# Altium integrated library ALIENTEK_COMPONENT.IntLib: 379 symbols (part 2 of 3)
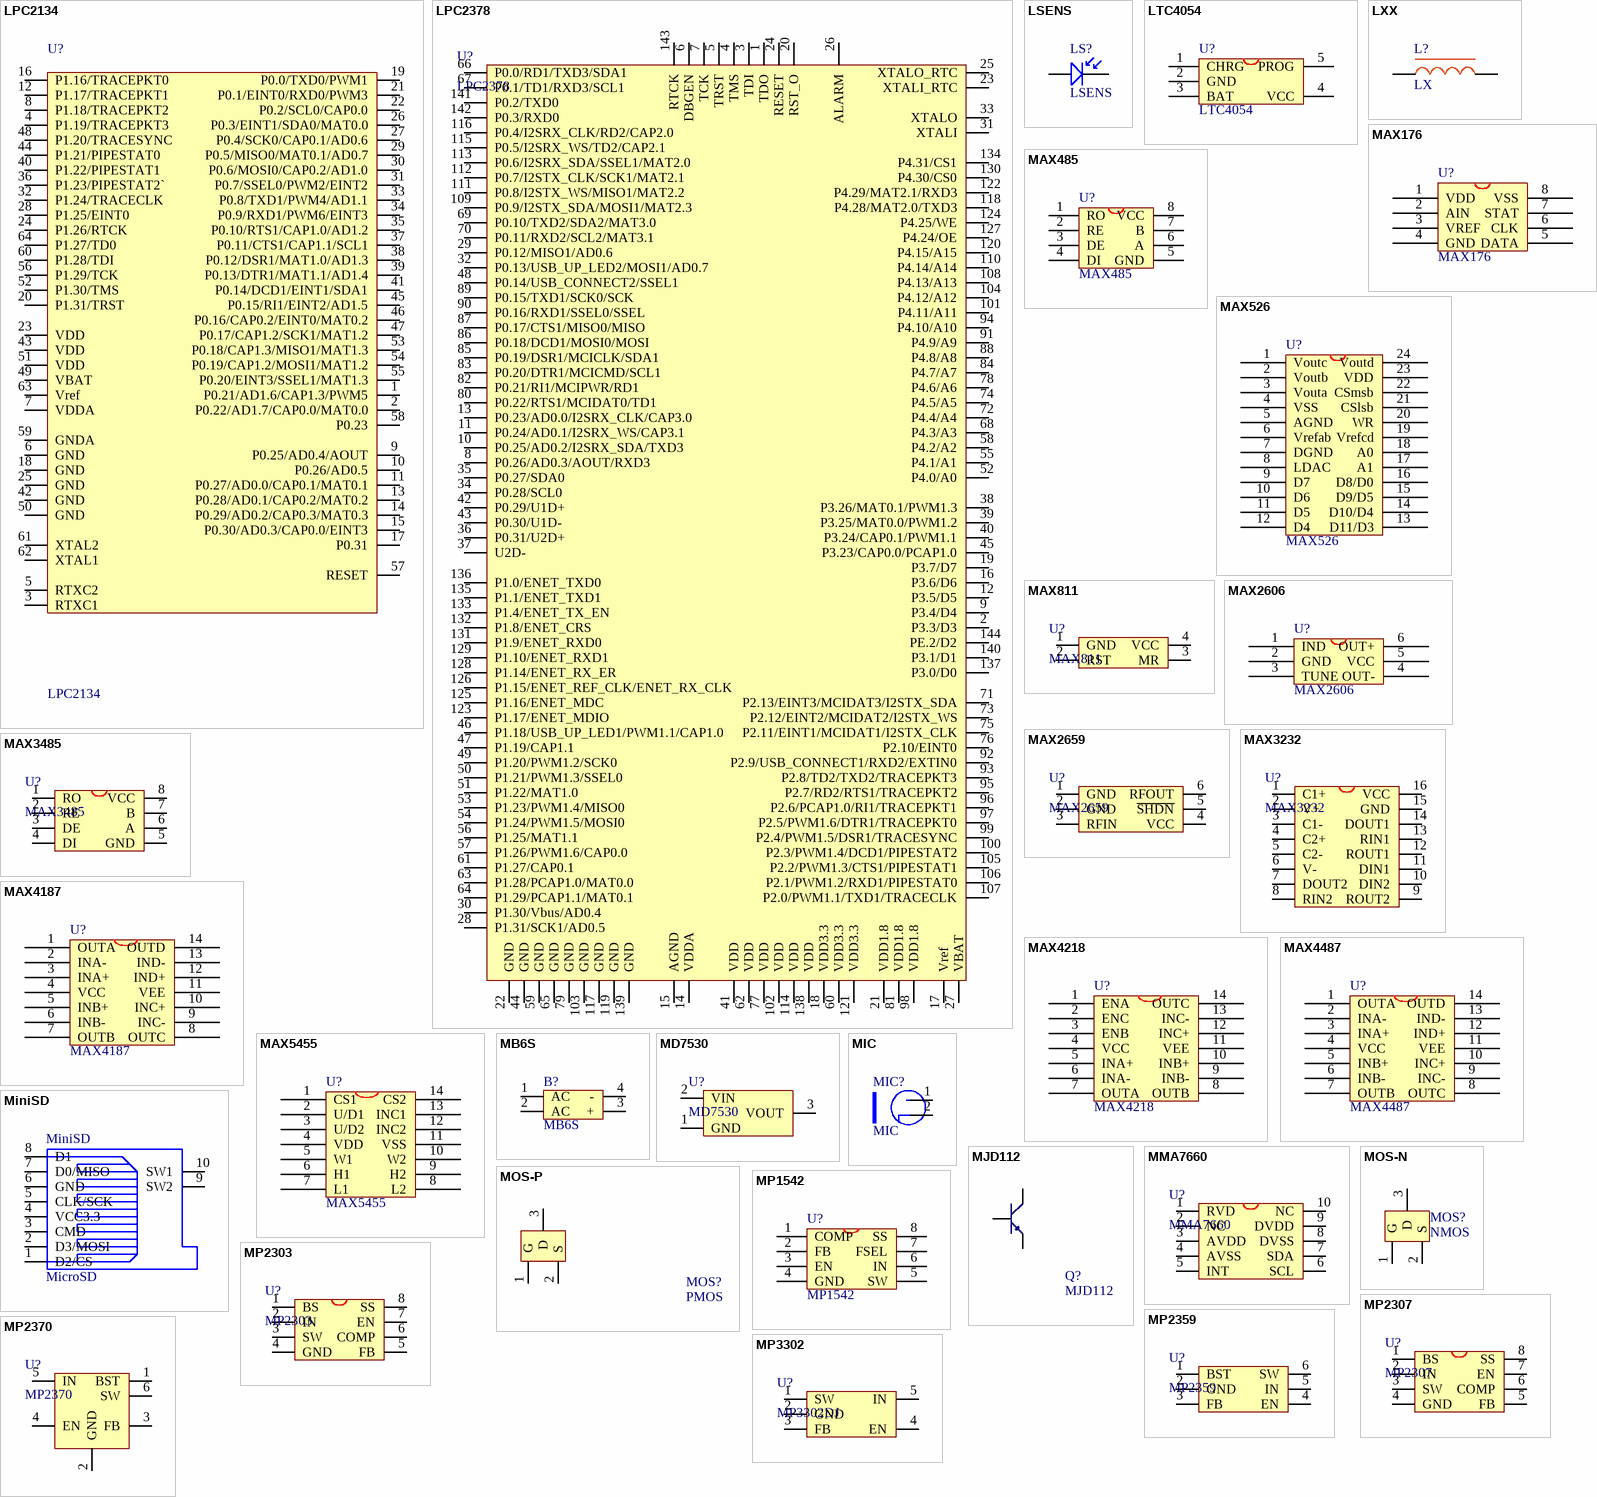
[diagram p21: symbols LPC2134 to MP3302]

## MOS-P
designator MOS?, comment PMOS
IRLML6401/SI2301
footprint SO-G3/C2.5 (SOT-23; 3 Leads; Body 3.0 x 2.6 mm, inc. leads (LxW max))
pins: 1 G, 2 S, 3 D

## MP1542
designator U?
footprint MSOP8 (Shrink Small Outline, MSOP; 8 Leads; Body Width 3 mm; Pitch 0.65 mm)
pins: 1 COMP, 2 FB, 3 EN, 4 GND, 5 SW, 6 IN, 7 FSEL, 8 SS

## MP2303
designator U?
DC DC Step Down IC
footprint SOP-8 (SOP)
pins: 1 BS, 2 IN, 3 SW, 4 GND, 5 FB, 6 COMP, 7 EN, 8 SS

## MP2307
designator U?
DC DC Step Down IC
footprint SOP-8 (SOP)
pins: 1 BS, 2 IN, 3 SW, 4 GND, 5 FB, 6 COMP, 7 EN, 8 SS

## MP2359
designator U?
DC DC Step Down IC
footprint SOT-23-6
pins: 1 BST, 2 GND, 3 FB, 4 EN, 5 IN, 6 SW

## MP2370
designator U?
DC DC Step Down IC
footprint SOT-23-6
pins: 1 BST, 2 GND, 3 FB, 4 EN, 5 IN, 6 SW

## MP3302
designator U?, comment MP3302DJ
LCD背光IC
footprint SOT-23-5
pins: 1 SW, 2 GND, 3 FB, 4 EN, 5 IN

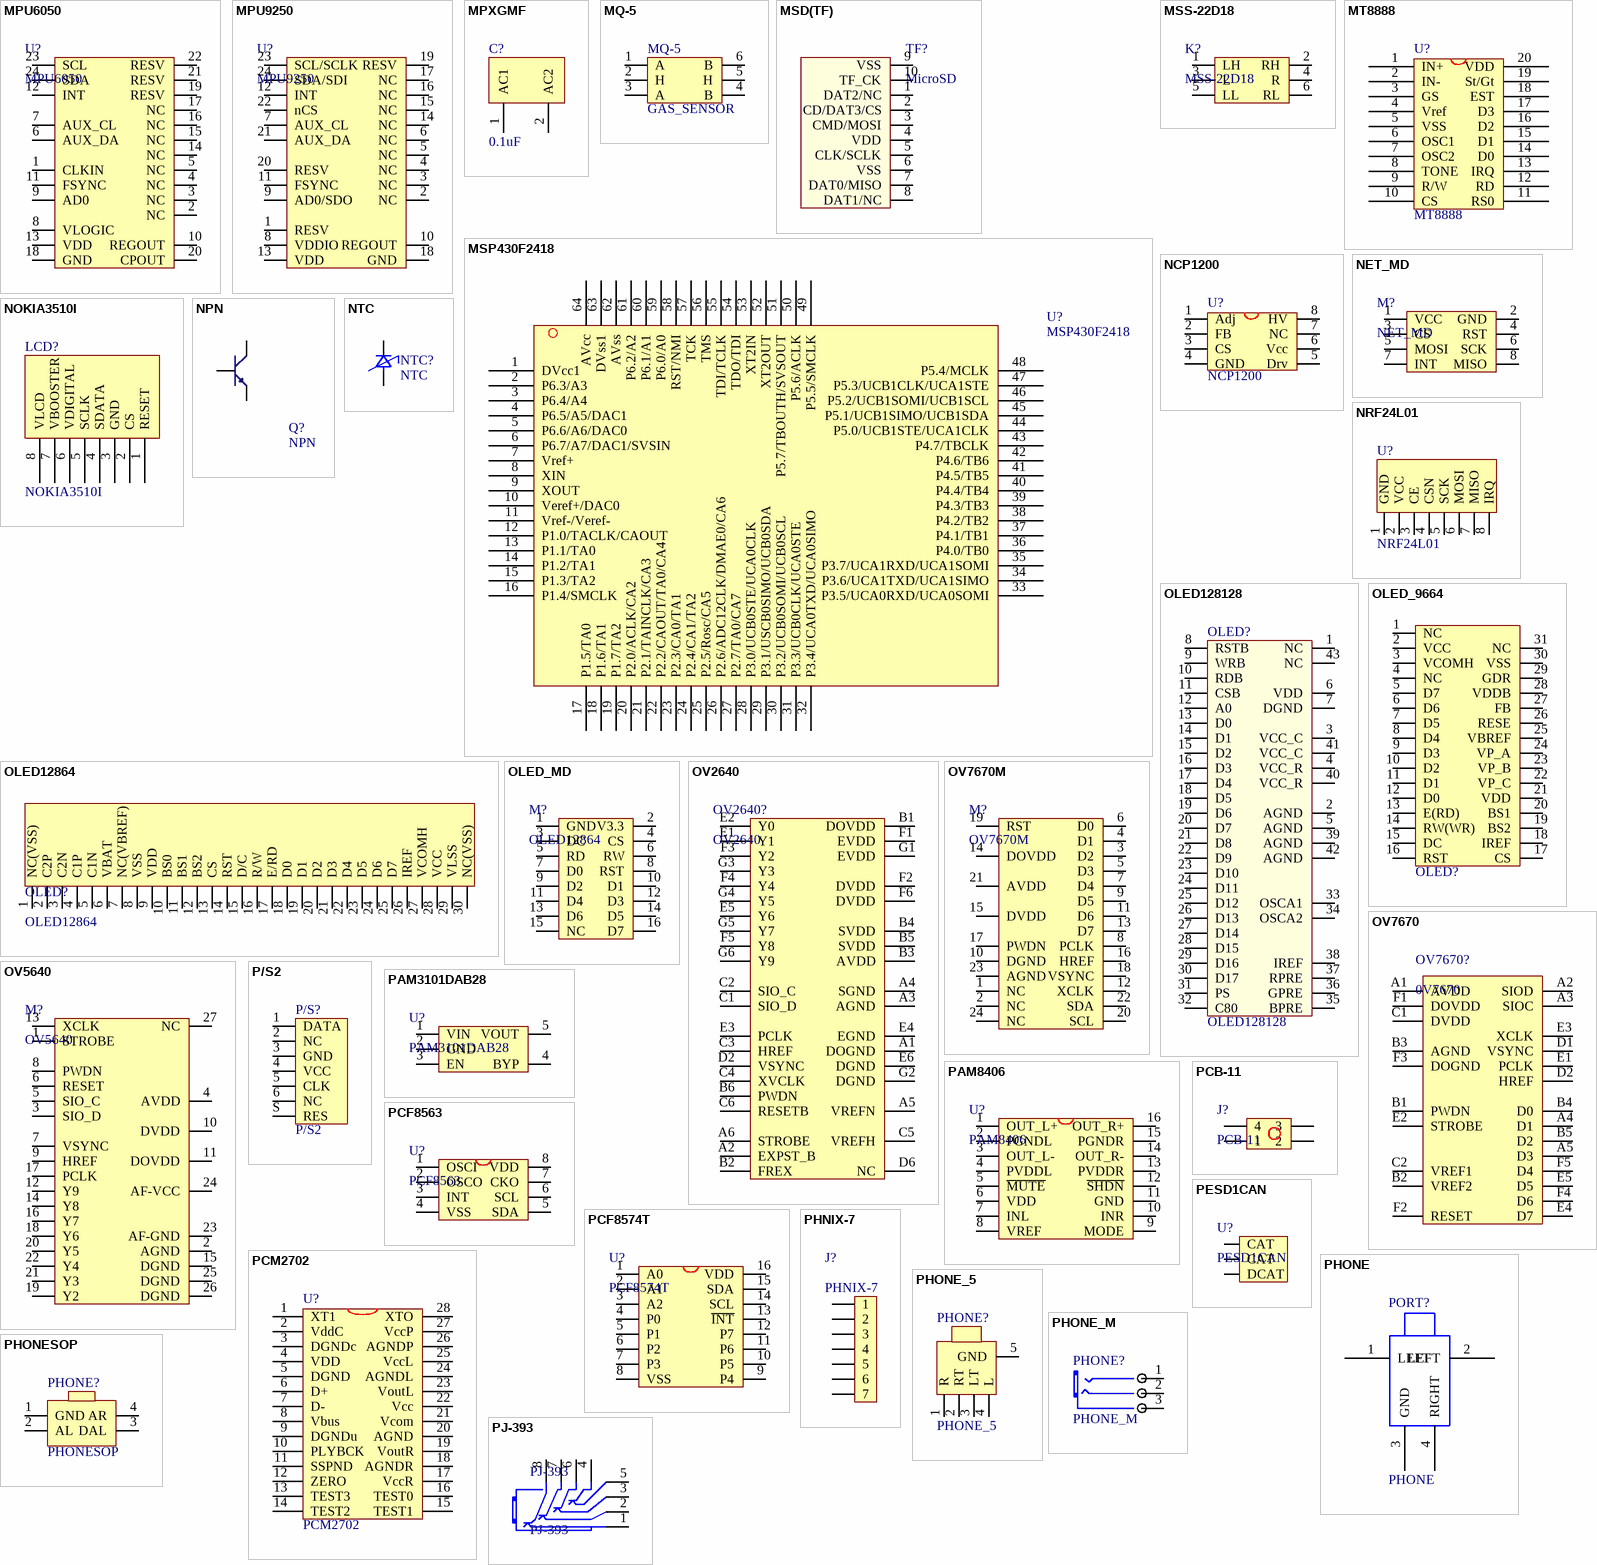
[diagram p7: symbols MPU6050 to PJ-393]

## MPU6050
designator U?
6轴运动处理传感器
footprint QFN24 (QFN, 24-Leads, Body 4.0x4.0mm (max), Pitch 0.50mm, IPC Medium Density)
pins: 1 CLKIN, 2 NC, 3 NC, 4 NC, 5 NC, 6 AUX_DA, 7 AUX_CL, 8 VLOGIC, 9 AD0, 10 REGOUT, 11 FSYNC, 12 INT, 13 VDD, 14 NC, 15 NC, 16 NC, 17 NC, 18 GND, 19 RESV, 20 CPOUT, 21 RESV, 22 RESV, 23 SCL, 24 SDA

## MPU9250
designator U?
9轴运动处理传感器
footprint QFN24-t (QFN, 24-Leads, Body 3.0x3.0mm (max), Pitch 0.40mm,)
pins: 1 RESV, 2 NC, 3 NC, 4 NC, 5 NC, 6 NC, 7 AUX_CL, 8 VDDIO, 9 AD0/SDO, 10 REGOUT, 11 FSYNC, 12 INT, 13 VDD, 14 NC, 15 NC, 16 NC, 17 NC, 18 GND, 19 RESV, 20 RESV, 21 AUX_DA, 22 nCS, 23 SCL/SCLK, 24 SDA/SDI

## MPXGMF
designator C?, comment 0.1uF
footprint MPXGMF
pins: 1 AC1, 2 AC2

## MQ-5
designator MQ-5, comment GAS_SENSOR
footprint MQ-5 (GAS_SENSOR)
pins: 1 A, 2 H, 3 A, 4 B, 5 H, 6 B

## MSD(TF)
designator TF?, comment MicroSD
footprint MSD(TF)
pins: 1 DAT2/NC, 2 CD/DAT3/CS, 3 CMD/MOSI, 4 VDD, 5 CLK/SCLK, 6 VSS, 7 DAT0/MISO, 8 DAT1/NC, 9 VSS, 10 TF_CK

## MSP430F2418
designator U?
footprint TQFP64
pins: 1 DVcc1, 2 P6.3/A3, 3 P6.4/A4, 4 P6.5/A5/DAC1, 5 P6.6/A6/DAC0, 6 P6.7/A7/DAC1/SVSIN, 7 Vref+, 8 XIN, 9 XOUT, 10 Veref+/DAC0, 11 Vref-/Veref-, 12 P1.0/TACLK/CAOUT, 13 P1.1/TA0, 14 P1.2/TA1, 15 P1.3/TA2, 16 P1.4/SMCLK, 17 P1.5/TA0, 18 P1.6/TA1, 19 P1.7/TA2, 20 P2.0/ACLK/CA2, 21 P2.1/TAINCLK/CA3, 22 P2.2/CAOUT/TA0/CA4, 23 P2.3/CA0/TA1, 24 P2.4/CA1/TA2, 25 P2.5/Rosc/CA5, 26 P2.6/ADC12CLK/DMAE0/CA6, 27 P2.7/TA0/CA7, 28 P3.0/UCB0STE/UCA0CLK, 29 P3.1/USCB0SIMO/UCB0SDA, 30 P3.2/UCB0SOMI/UCB0SCL, 31 P3.3/UCB0CLK/UCA0STE, 32 P3.4/UCA0TXD/UCA0SIMO, 33 P3.5/UCA0RXD/UCA0SOMI, 34 P3.6/UCA1TXD/UCA1SIMO, 35 P3.7/UCA1RXD/UCA1SOMI, 36 P4.0/TB0, 37 P4.1/TB1, 38 P4.2/TB2, 39 P4.3/TB3, 40 P4.4/TB4, 41 P4.5/TB5, 42 P4.6/TB6, 43 P4.7/TBCLK, 44 P5.0/UCB1STE/UCA1CLK, 45 P5.1/UCB1SIMO/UCB1SDA, 46 P5.2/UCB1SOMI/UCB1SCL, 47 P5.3/UCB1CLK/UCA1STE, 48 P5.4/MCLK, 49 P5.5/SMCLK, 50 P5.6/ACLK, 51 P5.7/TBOUTH/SVSOUT, 52 XT2OUT, 53 XT2IN, 54 TDO/TDI, 55 TDI/TCLK, 56 TMS, 57 TCK, 58 RST/NMI, 59 P6.0/A0, 60 P6.1/A1, 61 P6.2/A2, 62 AVss, 63 DVss1, 64 AVcc

## MSS-22D18
designator K?
六脚波动开关
footprint MSS-22D18-DIP (2P2T;3.5*9mm;2*3PIN)
footprint MSS-22D18-SOP (2P2T;3.5*9mm;2*3PIN)
pins: 1 LH, 2 RH, 3 L, 4 R, 5 LL, 6 RL

## MT8888
designator U?
footprint DIP-20
pins: 1 IN+, 2 IN-, 3 GS, 4 Vref, 5 VSS, 6 OSC1, 7 OSC2, 8 TONE, 9 R/W, 10 CS, 11 RS0, 12 RD, 13 IRQ, 14 D0, 15 D1, 16 D2, 17 D3, 18 EST, 19 St/Gt, 20 VDD

## NCP1200
designator U?
footprint SOP-8 (SSOP8)
pins: 1 Adj, 2 FB, 3 CS, 4 GND, 5 Drv, 6 Vcc, 7 NC, 8 HV

## NET_MD
designator M?
footprint NET_MD (ALIENTEK;NET MODULE;)
pins: 1 VCC, 2 GND, 3 CS, 4 RST, 5 MOSI, 6 SCK, 7 INT, 8 MISO

## NOKIA3510I
designator LCD?
footprint NOKIA3510I
pins: 1 RESET, 2 CS, 3 GND, 4 SDATA, 5 SCLK, 6 VDIGITAL, 7 VBOOSTER, 8 VLCD

## NPN
designator Q?
8050/BCW846/BCW847
footprint SOT-23R (SOT-23; 3 Leads; Body 3.0 x 2.5 mm, inc. leads (LxW max))
footprint NPN
pins: 1 E, 2 B, 3 C

## NRF24L01
designator U?
footprint NRF24L01 (NRF24L01_MODE)
pins: 1 GND, 2 VCC, 3 CE, 4 CSN, 5 SCK, 6 MOSI, 7 MISO, 8 IRQ

## NTC
designator NTC?
footprint NTC
pins: 1, 2

## OLED12864
designator OLED?
footprint OLED_0.96 (128*64)
pins: 1 NC(VSS), 2 C2P, 3 C2N, 4 C1P, 5 C1N, 6 VBAT, 7 NC(VBREF), 8 VSS, 9 VDD, 10 BS0, 11 BS1, 12 BS2, 13 CS, 14 RST, 15 D/C, 16 R/W, 17 E/RD, 18 D0, 19 D1, 20 D2, 21 D3, 22 D4, 23 D5, 24 D6, 25 D7, 26 IREF, 27 VCOMH, 28 VCC, 29 VLSS, 30 NC(VSS)

## OLED128128
designator OLED?
footprint OLED128128 (OLED)
pins: 1 NC, 2 AGND, 3 VCC_C, 4 VCC_R, 5 AGND, 6 VDD, 7 DGND, 8 RSTB, 9 WRB, 10 RDB, 11 CSB, 12 A0, 13 D0, 14 D1, 15 D2, 16 D3, 17 D4, 18 D5, 19 D6, 20 D7, 21 D8, 22 D9, 23 D10, 24 D11, 25 D12, 26 D13, 27 D14, 28 D15, 29 D16, 30 D17, 31 PS, 32 C80, 33 OSCA1, 34 OSCA2, 35 BPRE, 36 GPRE, 37 RPRE, 38 IREF, 39 AGND, 40 VCC_R, 41 VCC_C, 42 AGND, 43 NC

## OLED_9664
designator OLED?, comment OLED  (value not drawn)
footprint OLED_1.04
footprint OLED_1.04_BACK
pins: 1 NC, 2 VCC, 3 VCOMH, 4 NC, 5 D7, 6 D6, 7 D5, 8 D4, 9 D3, 10 D2, 11 D1, 12 D0, 13 E(RD), 14 RW(WR), 15 DC, 16 RST, 17 CS, 18 IREF, 19 BS2, 20 BS1, 21 VDD, 22 VP_C, 23 VP_B, 24 VP_A, 25 VBREF, 26 RESE, 27 FB, 28 VDDB, 29 GDR, 30 VSS, 31 NC

## OLED_MD
designator M?, comment OLED12864
footprint OLED_MD (OLED Module;128*64;)
pins: 1 GND, 2 V3.3, 3 DC, 4 CS, 5 RD, 6 RW, 7 D0, 8 RST, 9 D2, 10 D1, 11 D4, 12 D3, 13 D6, 14 D5, 15 NC, 16 D7

## OV2640
designator OV2640?
footprint ov2640-22 (OV2640带22mm镜头座)
footprint BGA38 (BGA, 42-Leads, Body 6.3x5.7mm,  Pitch 0.80mm)
pins: A1 DOGND, A2 EXPST_B, A3 AGND, A4 SGND, A5 VREFN, A6 STROBE, B1 DOVDD, B2 FREX, B3 AVDD, B4 SVDD, B5 SVDD, B6 PWDN, C1 SIO_D, C2 SIO_C, C3 HREF, C4 XVCLK, C5 VREFH, C6 RESETB, D2 VSYNC, D6 NC, E1 Y1, E2 Y0, E3 PCLK, E4 EGND, E5 Y6, E6 DGND, F1 EVDD, F2 DVDD, F3 Y2, F4 Y4, F5 Y8, F6 DVDD, G1 EVDD, G2 DGND, G3 Y3, G4 Y5, G5 Y7, G6 Y9

## OV5640
designator M?
OV5640模组,AF,FPC
footprint OV5640-24 (FPCBOTTOM;0.5mm;)
pins: 1 STROBE, 2 AGND, 3 SIO_D, 4 AVDD, 5 SIO_C, 6 RESET, 7 VSYNC, 8 PWDN, 9 HREF, 10 DVDD, 11 DOVDD, 12 Y9, 13 XCLK, 14 Y8, 15 DGND, 16 Y7, 17 PCLK, 18 Y6, 19 Y2, 20 Y5, 21 Y3, 22 Y4, 23 AF-GND, 24 AF-VCC, 25 DGND, 26 DGND, 27 NC

## OV7670
designator OV7670?, comment 0V7670
footprint BGA24 (BGA, 24-Leads, Body 4.2x3.8mm,  Pitch 0.62mm)
footprint OV7670-18 (BGA, 24-Leads, Body 4.2x3.8mm,  Pitch 0.62mm)
footprint OV7670-22 (BGA, 24-Leads, Body 4.2x3.8mm,  Pitch 0.62mm)
pins: A1 AVDD, A2 SIOD, A3 SIOC, A4 D1, A5 D3, B1 PWDN, B2 VREF2, B3 AGND, B4 D0, B5 D2, C1 DVDD, C2 VREF1, D1 VSYNC, D2 HREF, E1 PCLK, E2 STROBE, E3 XCLK, E4 D7, E5 D5, F1 DOVDD, F2 RESET, F3 DOGND, F4 D6, F5 D4

## OV7670M
designator M?
footprint FPC-TOP24 (FPCTOP;0.5mm;)
pins: 1 NC, 2 NC, 3 D2, 4 D1, 5 D3, 6 D0, 7 D4, 8 PCLK, 9 D5, 10 DGND, 11 D6, 12 XCLK, 13 D7, 14 DOVDD, 15 DVDD, 16 HREF, 17 PWDN, 18 VSYNC, 19 RST, 20 SCL, 21 AVDD, 22 SDA, 23 AGND, 24 NC

## P/S2
designator P/S?
footprint PS2-6PIN (PS2 Socket, 6 Pin, Through Hole)
pins: 1 DATA, 2 NC, 3 GND, 4 VCC, 5 CLK, 6 NC, S RES

## PAM3101DAB28
designator U?
2.8V稳压IC
footprint SOT-23-5
pins: 1 VIN, 2 GND, 3 EN, 4 BYP, 5 VOUT

## PAM8406
designator U?
2*5W AB/D类功放芯片
footprint SOP16M (Small Outline; 16 Leads; Body Width 3.9 mm; Pitch 1.27 mm)
pins: 1 OUT_L+, 2 PGNDL, 3 OUT_L-, 4 PVDDL, 5 ~{MUTE}, 6 VDD, 7 INL, 8 VREF, 9 MODE, 10 INR, 11 GND, 12 ~{SHDN}, 13 PVDDR, 14 OUT_R-, 15 PGNDR, 16 OUT_R+

## PCB-11
designator J?
PCB接线端子
footprint PCB-11 (7mm*5mm,2r:1.5mm)
pins: 1, 2, 3, 4

## PCF8563
designator U?
时钟芯片
footprint SOP-8 (SOP)
pins: 1 OSCI, 2 OSCO, 3 INT, 4 VSS, 5 SDA, 6 SCL, 7 CKO, 8 VDD

## PCF8574T
designator U?
8路IO扩展,IIC接口
footprint SO-16 (16 leads,body width 7.5mm,pitch 1.27mm)
pins: 1 A0, 2 A1, 3 A2, 4 P0, 5 P1, 6 P2, 7 P3, 8 VSS, 9 P4, 10 P5, 11 P6, 12 P7, 13 ~{INT}, 14 SCL, 15 SDA, 16 VDD

## PCM2702
designator U?
USB声卡
footprint SO-28 (PCM2702)
pins: 1 XT1, 2 VddC, 3 DGNDc, 4 VDD, 5 DGND, 6 D+, 7 D-, 8 Vbus, 9 DGNDu, 10 PLYBCK, 11 SSPND, 12 ZERO, 13 TEST3, 14 TEST2, 15 TEST1, 16 TEST0, 17 VccR, 18 AGNDR, 19 VoutR, 20 AGND, 21 Vcom, 22 Vcc, 23 VoutL, 24 AGNDL, 25 VccL, 26 AGNDP, 27 VccP, 28 XTO

## PESD1CAN
designator U?
ESD
footprint SOT-23 (SOT-23; 3 Leads; Body 3.0 x 2.5 mm, inc. leads (LxW max))
pins: 1 CAT, 2 CAT, 3 DCAT

## PHNIX-7
designator J?
footprint PHNIX-7 (名字不太对)
pins: 1, 2, 3, 4, 5, 6, 7

## PHONE
designator PORT?
footprint PHONE
pins: 1 LEFT, 2 LEFT, 3 GND, 4 RIGHT

## PHONE_5
designator PHONE?
footprint PHONE-5 (PHONE_5)
pins: 1 R, 2 RT, 3 LT, 4 L, 5 GND

## PHONE_M
designator PHONE?
footprint PHONE_ST
pins: 1 CHL, 2 CHR, 3 COM

## PHONESOP
designator PHONE?
footprint PHONESOP
pins: 1 GND, 2 AL, 3 DAL, 4 AR

## PJ-393
designator PJ-393
footprint PJ-393
pins: 1, 2, 3, 4, 5, 6, 7, 8

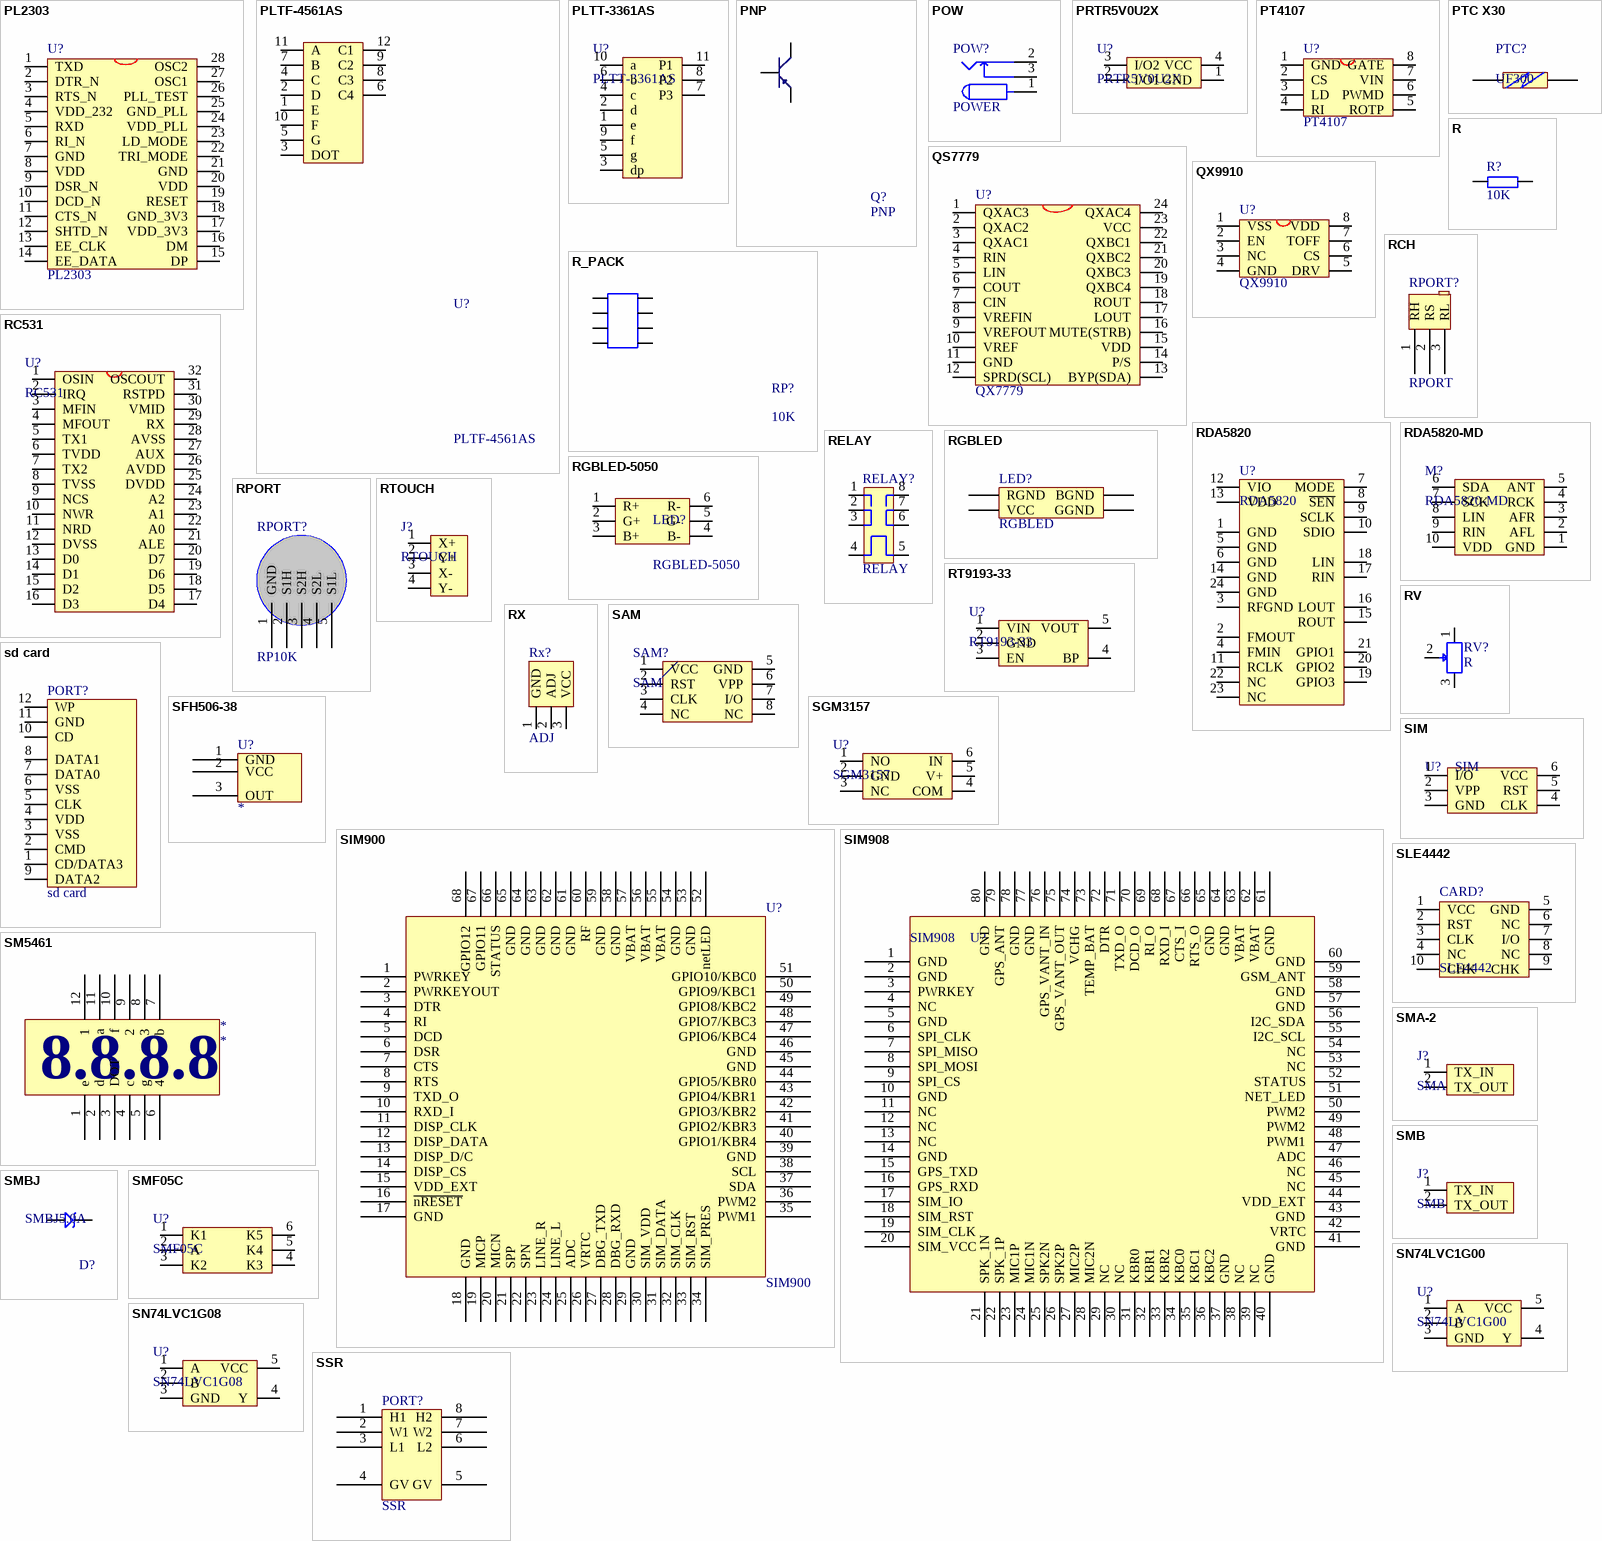
[diagram p8: symbols PL2303 to SSR]

## PL2303
designator U?
footprint ssop28
pins: 1 TXD, 2 DTR_N, 3 RTS_N, 4 VDD_232, 5 RXD, 6 RI_N, 7 GND, 8 VDD, 9 DSR_N, 10 DCD_N, 11 CTS_N, 12 SHTD_N, 13 EE_CLK, 14 EE_DATA, 15 DP, 16 DM, 17 VDD_3V3, 18 GND_3V3, 19 RESET, 20 VDD, 21 GND, 22 TRI_MODE, 23 LD_MODE, 24 VDD_PLL, 25 GND_PLL, 26 PLL_TEST, 27 OSC1, 28 OSC2

## PLTF-4561AS
designator U?
PLTF4561
footprint LEDDIP-12 (LED, 7-Segment Display; 12 Pins; Row Space 15.24 mm; Pitch 2.54 mm)
footprint LEDDISPLAY-1.0
pins: 1 E, 2 D, 3 DOT, 4 C, 5 G, 6 C4, 7 B, 8 C3, 9 C2, 10 F, 11 A, 12 C1

## PLTT-3361AS
designator U?
PLTT3361
footprint LEDDISPLAY-1.0-3 (PLTT-3361AS)
pins: 1 e, 2 d, 3 dp, 4 c, 5 g, 6 b, 7 P3, 8 P2, 9 f, 10 a, 11 P1

## PNP
designator Q?
8550/BCW68
footprint NPN
footprint SOT-23R (SOT-23; 3 Leads; Body 3.0 x 2.5 mm, inc. leads (LxW max))
pins: 1 E, 2 B, 3 C

## POW
designator POW?, comment POWER
footprint POWER (DC_IN)
footprint DC10B
pins: 1, 2, 3

## PRTR5V0U2X
designator U?
ESD
footprint SOT-143B
pins: 1 GND, 2 I/O1, 3 I/O2, 4 VCC

## PT4107
designator U?
footprint SOP-8 (SSOP8)
pins: 1 GND, 2 CS, 3 LD, 4 RI, 5 ROTP, 6 PWMD, 7 VIN, 8 GATE

## PTC X30
designator PTC?, comment UF300
UF300X30
footprint PTC X30 (UF300 X300;30V,3A.)
pins: 1, 2

## QS7779
designator U?, comment QX7779
footprint SOP24 (0.8MM)
pins: 1 QXAC3, 2 QXAC2, 3 QXAC1, 4 RIN, 5 LIN, 6 COUT, 7 CIN, 8 VREFIN, 9 VREFOUT, 10 VREF, 11 GND, 12 SPRD(SCL), 13 BYP(SDA), 14 P/S, 15 VDD, 16 MUTE(STRB), 17 LOUT, 18 ROUT, 19 QXBC4, 20 QXBC3, 21 QXBC2, 22 QXBC1, 23 VCC, 24 QXAC4

## QX9910
designator U?
footprint SOP-8 (SSOP8)
pins: 1 VSS, 2 EN, 3 NC, 4 GND, 5 DRV, 6 CS, 7 TOFF, 8 VDD

## R
designator R?, comment 10K
footprint 0805
footprint 0603P
footprint RL (10o/0.7uH)
footprint R16.0 (RX/1W)
footprint 1206
footprint 1210
footprint R20.0 (RX/2W)
footprint R10.16 (STD)
footprint RLN9 (13.5mm*5.1mm)
footprint 0402
pins: 1, 2

## R_PACK
designator RP?, comment 10K
排阻
footprint 8P4R_0603
pins: 1, 2, 3, 4, 5, 6, 7, 8

## RC531
designator U?
footprint SOP32 (e:1.27mm;He:10.0mm)
pins: 1 OSIN, 2 IRQ, 3 MFIN, 4 MFOUT, 5 TX1, 6 TVDD, 7 TX2, 8 TVSS, 9 NCS, 10 NWR, 11 NRD, 12 DVSS, 13 D0, 14 D1, 15 D2, 16 D3, 17 D4, 18 D5, 19 D6, 20 D7, 21 ALE, 22 A0, 23 A1, 24 A2, 25 DVDD, 26 AVDD, 27 AUX, 28 AVSS, 29 RX, 30 VMID, 31 RSTPD, 32 OSCOUT

## RCH
designator RPORT?, comment RPORT
footprint DB88X
pins: 1 RH, 2 RS, 3 RL

## RDA5820
designator U?
footprint QFN24 (QFN, 24-Leads, Body 4.0x4.0mm (max), Pitch 0.50mm, IPC Medium Density)
pins: 1 GND, 2 FMOUT, 3 RFGND, 4 FMIN, 5 GND, 6 GND, 7 MODE, 8 ~{SEN}, 9 SCLK, 10 SDIO, 11 RCLK, 12 VIO, 13 VDD, 14 GND, 15 ROUT, 16 LOUT, 17 RIN, 18 LIN, 19 GPIO3, 20 GPIO2, 21 GPIO1, 22 NC, 23 NC, 24 GND

## RDA5820-MD
designator M?
footprint PL102BH (PL102BH-2.0)
pins: 1 GND, 2 AFL, 3 AFR, 4 RCK, 5 ANT, 6 SDA, 7 SCK, 8 LIN, 9 RIN, 10 VDD

## RELAY
designator RELAY?
footprint RELAY24 (HRM1H-S-DC34V-C)
pins: 1 L1, 2 W1, 3 H1, 4 VCC, 5 GND, 6 H2, 7 W2, 8 L2

## RGBLED
designator LED?
footprint 3WLEDS (3WLED-21)
footprint RGBLED_SOP (SOP_RGB)
pins: 1 RGND, 2 VCC, 3 GGND, 4 BGND

## RGBLED-5050
designator LED?
footprint PLCC-5050 (SOP_RGB)
pins: 1 R+, 2 G+, 3 B+, 4 B-, 5 G-, 6 R-

## RPORT
designator RPORT?, comment RP10K
footprint DRPORT? (DRPORT)
pins: 1 GND, 2 S1H, 3 S2H, 4 S2L, 5 S1L

## RT9193-33
designator U?
3.3V超低压差LDO
footprint SOT-23-5
pins: 1 VIN, 2 GND, 3 EN, 4 BP, 5 VOUT

## RTOUCH
designator J?
7' 电阻触摸屏
footprint FFC/SM1.0-4
pins: 1 X+, 2 Y+, 3 X-, 4 Y-

## RV
designator RV?, comment R
footprint RV
pins: 1, 2, 3

## RX
designator Rx?, comment ADJ
footprint ADJRH
pins: 1 GND, 2 ADJ, 3 VCC

## SAM
designator SAM?
SAM;SIM;
footprint SAM_SLOT
pins: 1 VCC, 2 RST, 3 CLK, 4 NC, 5 GND, 6 VPP, 7 I/O, 8 NC

## sd card
designator PORT?
footprint SDCARD_S (SDCARD_SMALL)
footprint SDCARD_L (SDCARD_LARGE)
pins: 1 CD/DATA3, 2 CMD, 3 VSS, 4 VDD, 5 CLK, 6 VSS, 7 DATA0, 8 DATA1, 9 DATA2, 10 CD, 11 GND, 12 WP

## SFH506-38
designator U?
footprint SFH506-38
pins: 1 GND, 2 VCC, 3 OUT

## SGM3157
designator U?
单路双掷模拟开关
footprint SOT-363
pins: 1 NO, 2 GND, 3 NC, 4 COM, 5 V+, 6 IN

## SIM
designator U?
手机SIM卡
footprint SIM (金属式)
pins: 1 I/O, 2 VPP, 3 GND, 4 CLK, 5 RST, 6 VCC

## SIM900
designator U?
SIM900/SIM900A
footprint GSM_900A (SIM900/SIM900A)
pins: 1 PWRKEY, 2 PWRKEYOUT, 3 DTR, 4 RI, 5 DCD, 6 DSR, 7 CTS, 8 RTS, 9 TXD_O, 10 RXD_I, 11 DISP_CLK, 12 DISP_DATA, 13 DISP_D/C, 14 DISP_CS, 15 VDD_EXT, 16 ~{nRESET}, 17 GND, 18 GND, 19 MICP, 20 MICN, 21 SPP, 22 SPN, 23 LINE_R, 24 LINE_L, 25 ADC, 26 VRTC, 27 DBG_TXD, 28 DBG_RXD, 29 GND, 30 SIM_VDD, 31 SIM_DATA, 32 SIM_CLK, 33 SIM_RST, 34 SIM_PRES, 35 PWM1, 36 PWM2, 37 SDA, 38 SCL, 39 GND, 40 GPIO1/KBR4, 41 GPIO2/KBR3, 42 GPIO3/KBR2, 43 GPIO4/KBR1, 44 GPIO5/KBR0, 45 GND, 46 GND, 47 GPIO6/KBC4, 48 GPIO7/KBC3, 49 GPIO8/KBC2, 50 GPIO9/KBC1, 51 GPIO10/KBC0, 52 netLED, 53 GND, 54 GND, 55 VBAT, 56 VBAT, 57 VBAT, 58 GND, 59 GND, 60 RF, 61 GND, 62 GND, 63 GND, 64 GND, 65 GND, 66 STATUS, 67 GPIO11, 68 GPIO12

## SIM908
designator U?
footprint GSM_908
pins: 1 GND, 2 GND, 3 PWRKEY, 4 NC, 5 GND, 6 SPI_CLK, 7 SPI_MISO, 8 SPI_MOSI, 9 SPI_CS, 10 GND, 11 NC, 12 NC, 13 NC, 14 GND, 15 GPS_TXD, 16 GPS_RXD, 17 SIM_IO, 18 SIM_RST, 19 SIM_CLK, 20 SIM_VCC, 21 SPK_1N, 22 SPK_1P, 23 MIC1P, 24 MIC1N, 25 SPK2N, 26 SPK2P, 27 MIC2P, 28 MIC2N, 29 NC, 30 NC, 31 KBR0, 32 KBR1, 33 KBR2, 34 KBC0, 35 KBC1, 36 KBC2, 37 GND, 38 NC, 39 NC, 40 GND, 41 GND, 42 VRTC, 43 GND, 44 VDD_EXT, 45 NC, 46 NC, 47 ADC, 48 PWM1, 49 PWM2, 50 PWM2, 51 NET_LED, 52 STATUS, 53 NC, 54 NC, 55 I2C_SCL, 56 I2C_SDA, 57 GND, 58 GND, 59 GSM_ANT, 60 GND, 61 GND, 62 VBAT, 63 VBAT, 64 GND, 65 GND, 66 RTS_O, 67 CTS_I, 68 RXD_I, 69 RI_O, 70 DCD_O, 71 TXD_O, 72 DTR, 73 TEMP_BAT, 74 VCHG, 75 GPS_VANT_OUT, 76 GPS_VANT_IN, 77 GND, 78 GND, 79 GPS_ANT, 80 GND

## SLE4442
designator CARD?
footprint SLE4442-P (SLE4442CARD,ISO7816)
pins: 1 VCC, 2 RST, 3 CLK, 4 NC, 5 GND, 6 NC, 7 I/O, 8 NC, 9 CHK, 10 CHK

## SM5461
designator *
footprint LEDDISPLAY-0.9
pins: 1 e, 2 d, 3 DOT, 4 c, 5 g, 6 4, 7 b, 8 3, 9 2, 10 f, 11 a, 12 1
text: 8.8.8.8

## SMA-2
designator J?, comment SMA
SMA-2
footprint SMA-2
pins: 1 TX_IN, 2 TX_OUT

## SMB
designator J?
footprint SMB
pins: 1 TX_IN, 2 TX_OUT

## SMBJ
designator D?, comment SMBJ5.0A
TVS
footprint SMBJ (3.6*5.4)
pins: 1, 2

## SMF05C
designator U?
TVS
footprint SOT-363
pins: 1 K1, 2 A, 3 K2, 4 K3, 5 K4, 6 K5

## SN74LVC1G00
designator U?
2输入与非门
footprint SOT-23-5
pins: 1 A, 2 B, 3 GND, 4 Y, 5 VCC

## SN74LVC1G08
designator U?
2输入与门
footprint SOT23-5 (SOT23, 5-Leads, Body 3.0x3.0mm (max), Pitch 0.95mm, IPC Medium Density)
pins: 1 A, 2 B, 3 GND, 4 Y, 5 VCC

## SSR
designator PORT?
footprint SSR
pins: 1 H1, 2 W1, 3 L1, 4 GV, 5 GV, 6 L2, 7 W2, 8 H2

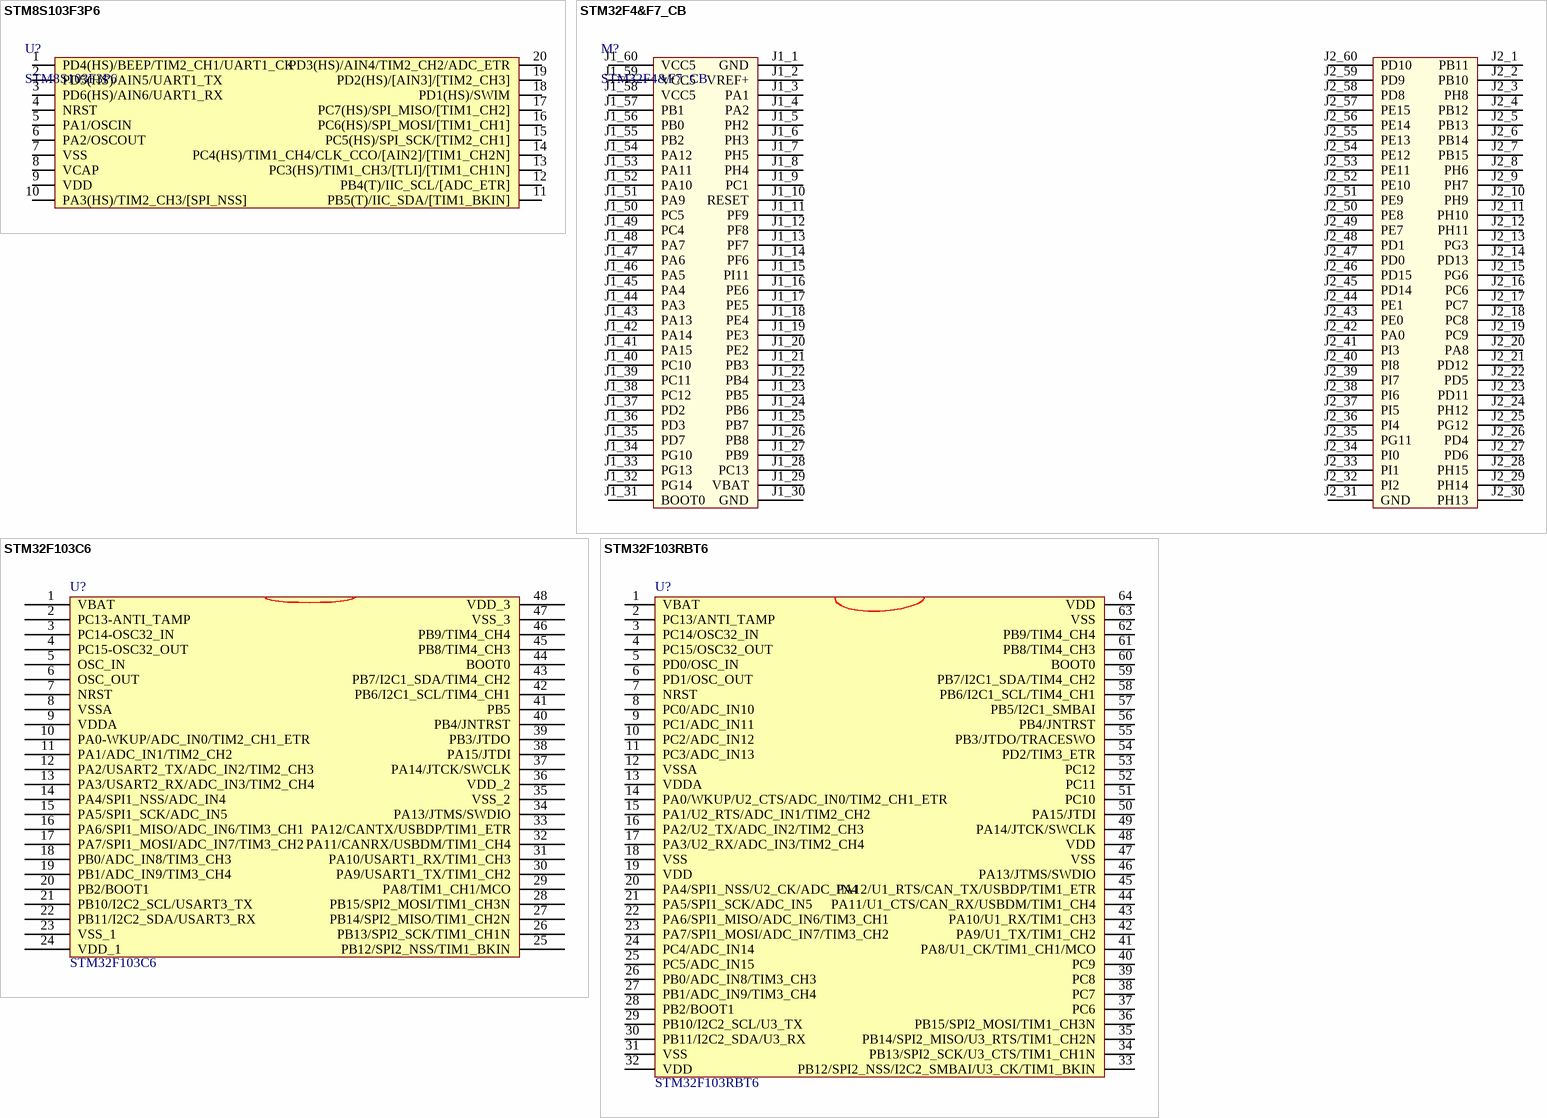
[diagram p9: symbols STM8S103F3P6 to STM32F103RBT6]

## STM8S103F3P6
designator U?
STM8S103F3P6/STM8S003F3P6
footprint TSSOP20 (TSOP, 20-Leads, Body 6.6x4.5mm (max), Pitch 0.65mm, IPC Medium Density)
pins: 1 PD4(HS)/BEEP/TIM2_CH1/UART1_CK, 2 PD5(HS)/AIN5/UART1_TX, 3 PD6(HS)/AIN6/UART1_RX, 4 NRST, 5 PA1/OSCIN, 6 PA2/OSCOUT, 7 VSS, 8 VCAP, 9 VDD, 10 PA3(HS)/TIM2_CH3/[SPI_NSS], 11 PB5(T)/IIC_SDA/[TIM1_BKIN], 12 PB4(T)/IIC_SCL/[ADC_ETR], 13 PC3(HS)/TIM1_CH3/[TLI]/[TIM1_CH1N], 14 PC4(HS)/TIM1_CH4/CLK_CCO/[AIN2]/[TIM1_CH2N], 15 PC5(HS)/SPI_SCK/[TIM2_CH1], 16 PC6(HS)/SPI_MOSI/[TIM1_CH1], 17 PC7(HS)/SPI_MISO/[TIM1_CH2], 18 PD1(HS)/SWIM, 19 PD2(HS)/[AIN3]/[TIM2_CH3], 20 PD3(HS)/AIN4/TIM2_CH2/ADC_ETR

## STM32F4&F7_CB
designator M?
F429/746 Core Board
footprint STM32F4&F7_CB (PIN:0.5mm;SOP;)
pins: J1_1 GND, J1_2 VREF+, J1_3 PA1, J1_4 PA2, J1_5 PH2, J1_6 PH3, J1_7 PH5, J1_8 PH4, J1_9 PC1, J1_10 RESET, J1_11 PF9, J1_12 PF8, J1_13 PF7, J1_14 PF6, J1_15 PI11, J1_16 PE6, J1_17 PE5, J1_18 PE4, J1_19 PE3, J1_20 PE2, J1_21 PB3, J1_22 PB4, J1_23 PB5, J1_24 PB6, J1_25 PB7, J1_26 PB8, J1_27 PB9, J1_28 PC13, J1_29 VBAT, J1_30 GND, J1_31 BOOT0, J1_32 PG14, J1_33 PG13, J1_34 PG10, J1_35 PD7, J1_36 PD3, J1_37 PD2, J1_38 PC12, J1_39 PC11, J1_40 PC10, J1_41 PA15, J1_42 PA14, J1_43 PA13, J1_44 PA3, J1_45 PA4, J1_46 PA5, J1_47 PA6, J1_48 PA7, J1_49 PC4, J1_50 PC5, J1_51 PA9, J1_52 PA10, J1_53 PA11, J1_54 PA12, J1_55 PB2, J1_56 PB0, J1_57 PB1, J1_58 VCC5, J1_59 VCC5, J1_60 VCC5, J2_1 PB11, J2_2 PB10, J2_3 PH8, J2_4 PB12, J2_5 PB13, J2_6 PB14, J2_7 PB15, J2_8 PH6, J2_9 PH7, J2_10 PH9, J2_11 PH10, J2_12 PH11, J2_13 PG3, J2_14 PD13, J2_15 PG6, J2_16 PC6, J2_17 PC7, J2_18 PC8, J2_19 PC9, J2_20 PA8, J2_21 PD12, J2_22 PD5, J2_23 PD11, J2_24 PH12, J2_25 PG12, J2_26 PD4, J2_27 PD6, J2_28 PH15, J2_29 PH14, J2_30 PH13, J2_31 GND, J2_32 PI2, J2_33 PI1, J2_34 PI0, J2_35 PG11, J2_36 PI4, J2_37 PI5, J2_38 PI6, J2_39 PI7, J2_40 PI8, J2_41 PI3, J2_42 PA0, J2_43 PE0, J2_44 PE1, J2_45 PD14, J2_46 PD15, J2_47 PD0, J2_48 PD1, J2_49 PE7, J2_50 PE8, J2_51 PE9, J2_52 PE10, J2_53 PE11, J2_54 PE12, J2_55 PE13, J2_56 PE14, J2_57 PE15, J2_58 PD8, J2_59 PD9, J2_60 PD10

## STM32F103C6
designator U?
footprint mTQFP48 (5.8mm)
pins: 1 VBAT, 2 PC13-ANTI_TAMP, 3 PC14-OSC32_IN, 4 PC15-OSC32_OUT, 5 OSC_IN, 6 OSC_OUT, 7 NRST, 8 VSSA, 9 VDDA, 10 PA0-WKUP/ADC_IN0/TIM2_CH1_ETR, 11 PA1/ADC_IN1/TIM2_CH2, 12 PA2/USART2_TX/ADC_IN2/TIM2_CH3, 13 PA3/USART2_RX/ADC_IN3/TIM2_CH4, 14 PA4/SPI1_NSS/ADC_IN4, 15 PA5/SPI1_SCK/ADC_IN5, 16 PA6/SPI1_MISO/ADC_IN6/TIM3_CH1, 17 PA7/SPI1_MOSI/ADC_IN7/TIM3_CH2, 18 PB0/ADC_IN8/TIM3_CH3, 19 PB1/ADC_IN9/TIM3_CH4, 20 PB2/BOOT1, 21 PB10/I2C2_SCL/USART3_TX, 22 PB11/I2C2_SDA/USART3_RX, 23 VSS_1, 24 VDD_1, 25 PB12/SPI2_NSS/TIM1_BKIN, 26 PB13/SPI2_SCK/TIM1_CH1N, 27 PB14/SPI2_MISO/TIM1_CH2N, 28 PB15/SPI2_MOSI/TIM1_CH3N, 29 PA8/TIM1_CH1/MCO, 30 PA9/USART1_TX/TIM1_CH2, 31 PA10/USART1_RX/TIM1_CH3, 32 PA11/CANRX/USBDM/TIM1_CH4, 33 PA12/CANTX/USBDP/TIM1_ETR, 34 PA13/JTMS/SWDIO, 35 VSS_2, 36 VDD_2, 37 PA14/JTCK/SWCLK, 38 PA15/JTDI, 39 PB3/JTDO, 40 PB4/JNTRST, 41 PB5, 42 PB6/I2C1_SCL/TIM4_CH1, 43 PB7/I2C1_SDA/TIM4_CH2, 44 BOOT0, 45 PB8/TIM4_CH3, 46 PB9/TIM4_CH4, 47 VSS_3, 48 VDD_3
2 alternate drawings of the same symbol

## STM32F103RBT6
designator U?
footprint LQFP64
pins: 1 VBAT, 2 PC13/ANTI_TAMP, 3 PC14/OSC32_IN, 4 PC15/OSC32_OUT, 5 PD0/OSC_IN, 6 PD1/OSC_OUT, 7 NRST, 8 PC0/ADC_IN10, 9 PC1/ADC_IN11, 10 PC2/ADC_IN12, 11 PC3/ADC_IN13, 12 VSSA, 13 VDDA, 14 PA0/WKUP/U2_CTS/ADC_IN0/TIM2_CH1_ETR, 15 PA1/U2_RTS/ADC_IN1/TIM2_CH2, 16 PA2/U2_TX/ADC_IN2/TIM2_CH3, 17 PA3/U2_RX/ADC_IN3/TIM2_CH4, 18 VSS, 19 VDD, 20 PA4/SPI1_NSS/U2_CK/ADC_IN4, 21 PA5/SPI1_SCK/ADC_IN5, 22 PA6/SPI1_MISO/ADC_IN6/TIM3_CH1, 23 PA7/SPI1_MOSI/ADC_IN7/TIM3_CH2, 24 PC4/ADC_IN14, 25 PC5/ADC_IN15, 26 PB0/ADC_IN8/TIM3_CH3, 27 PB1/ADC_IN9/TIM3_CH4, 28 PB2/BOOT1, 29 PB10/I2C2_SCL/U3_TX, 30 PB11/I2C2_SDA/U3_RX, 31 VSS, 32 VDD, 33 PB12/SPI2_NSS/I2C2_SMBAI/U3_CK/TIM1_BKIN, 34 PB13/SPI2_SCK/U3_CTS/TIM1_CH1N, 35 PB14/SPI2_MISO/U3_RTS/TIM1_CH2N, 36 PB15/SPI2_MOSI/TIM1_CH3N, 37 PC6, 38 PC7, 39 PC8, 40 PC9, 41 PA8/U1_CK/TIM1_CH1/MCO, 42 PA9/U1_TX/TIM1_CH2, 43 PA10/U1_RX/TIM1_CH3, 44 PA11/U1_CTS/CAN_RX/USBDM/TIM1_CH4, 45 PA12/U1_RTS/CAN_TX/USBDP/TIM1_ETR, 46 PA13/JTMS/SWDIO, 47 VSS, 48 VDD, 49 PA14/JTCK/SWCLK, 50 PA15/JTDI, 51 PC10, 52 PC11, 53 PC12, 54 PD2/TIM3_ETR, 55 PB3/JTDO/TRACESWO, 56 PB4/JNTRST, 57 PB5/I2C1_SMBAI, 58 PB6/I2C1_SCL/TIM4_CH1, 59 PB7/I2C1_SDA/TIM4_CH2, 60 BOOT0, 61 PB8/TIM4_CH3, 62 PB9/TIM4_CH4, 63 VSS, 64 VDD

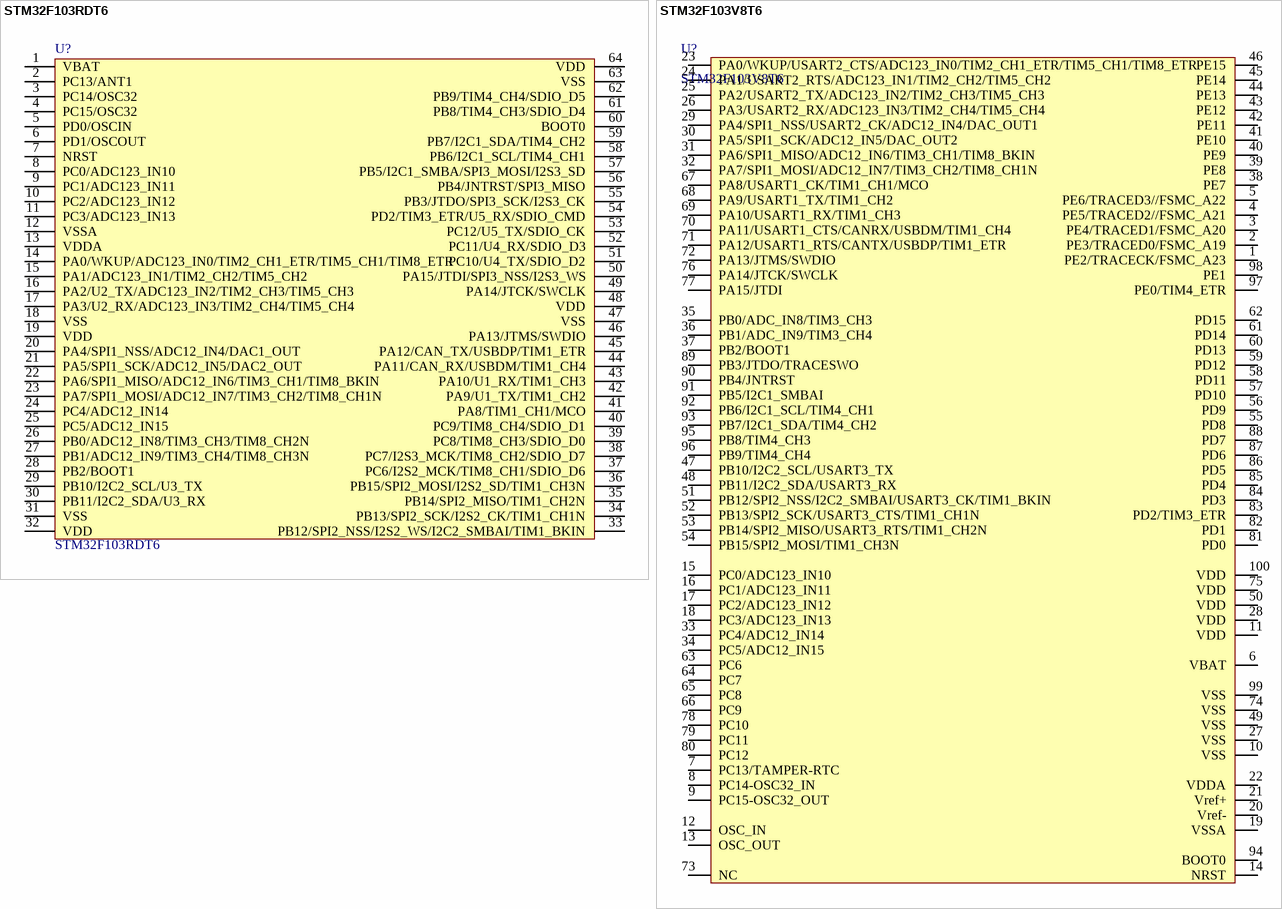
[diagram p10: symbols STM32F103RDT6 to STM32F103V8T6]

## STM32F103RDT6
designator U?
footprint LQFP64
pins: 1 VBAT, 2 PC13/ANT1, 3 PC14/OSC32, 4 PC15/OSC32, 5 PD0/OSCIN, 6 PD1/OSCOUT, 7 NRST, 8 PC0/ADC123_IN10, 9 PC1/ADC123_IN11, 10 PC2/ADC123_IN12, 11 PC3/ADC123_IN13, 12 VSSA, 13 VDDA, 14 PA0/WKUP/ADC123_IN0/TIM2_CH1_ETR/TIM5_CH1/TIM8_ETR, 15 PA1/ADC123_IN1/TIM2_CH2/TIM5_CH2, 16 PA2/U2_TX/ADC123_IN2/TIM2_CH3/TIM5_CH3, 17 PA3/U2_RX/ADC123_IN3/TIM2_CH4/TIM5_CH4, 18 VSS, 19 VDD, 20 PA4/SPI1_NSS/ADC12_IN4/DAC1_OUT, 21 PA5/SPI1_SCK/ADC12_IN5/DAC2_OUT, 22 PA6/SPI1_MISO/ADC12_IN6/TIM3_CH1/TIM8_BKIN, 23 PA7/SPI1_MOSI/ADC12_IN7/TIM3_CH2/TIM8_CH1N, 24 PC4/ADC12_IN14, 25 PC5/ADC12_IN15, 26 PB0/ADC12_IN8/TIM3_CH3/TIM8_CH2N, 27 PB1/ADC12_IN9/TIM3_CH4/TIM8_CH3N, 28 PB2/BOOT1, 29 PB10/I2C2_SCL/U3_TX, 30 PB11/I2C2_SDA/U3_RX, 31 VSS, 32 VDD, 33 PB12/SPI2_NSS/I2S2_WS/I2C2_SMBAI/TIM1_BKIN, 34 PB13/SPI2_SCK/I2S2_CK/TIM1_CH1N, 35 PB14/SPI2_MISO/TIM1_CH2N, 36 PB15/SPI2_MOSI/I2S2_SD/TIM1_CH3N, 37 PC6/I2S2_MCK/TIM8_CH1/SDIO_D6, 38 PC7/I2S3_MCK/TIM8_CH2/SDIO_D7, 39 PC8/TIM8_CH3/SDIO_D0, 40 PC9/TIM8_CH4/SDIO_D1, 41 PA8/TIM1_CH1/MCO, 42 PA9/U1_TX/TIM1_CH2, 43 PA10/U1_RX/TIM1_CH3, 44 PA11/CAN_RX/USBDM/TIM1_CH4, 45 PA12/CAN_TX/USBDP/TIM1_ETR, 46 PA13/JTMS/SWDIO, 47 VSS, 48 VDD, 49 PA14/JTCK/SWCLK, 50 PA15/JTDI/SPI3_NSS/I2S3_WS, 51 PC10/U4_TX/SDIO_D2, 52 PC11/U4_RX/SDIO_D3, 53 PC12/U5_TX/SDIO_CK, 54 PD2/TIM3_ETR/U5_RX/SDIO_CMD, 55 PB3/JTDO/SPI3_SCK/I2S3_CK, 56 PB4/JNTRST/SPI3_MISO, 57 PB5/I2C1_SMBA/SPI3_MOSI/I2S3_SD, 58 PB6/I2C1_SCL/TIM4_CH1, 59 PB7/I2C1_SDA/TIM4_CH2, 60 BOOT0, 61 PB8/TIM4_CH3/SDIO_D4, 62 PB9/TIM4_CH4/SDIO_D5, 63 VSS, 64 VDD

## STM32F103V8T6
designator U?
footprint LQFP100 (TSQFP, 100-Leads, Body 16.0x16.0mm (max), Pitch 0.50mm, IPC Medium Density)
pins: 1 PE2/TRACECK/FSMC_A23, 2 PE3/TRACED0/FSMC_A19, 3 PE4/TRACED1/FSMC_A20, 4 PE5/TRACED2//FSMC_A21, 5 PE6/TRACED3//FSMC_A22, 6 VBAT, 7 PC13/TAMPER-RTC, 8 PC14-OSC32_IN, 9 PC15-OSC32_OUT, 10 VSS, 11 VDD, 12 OSC_IN, 13 OSC_OUT, 14 NRST, 15 PC0/ADC123_IN10, 16 PC1/ADC123_IN11, 17 PC2/ADC123_IN12, 18 PC3/ADC123_IN13, 19 VSSA, 20 Vref-, 21 Vref+, 22 VDDA, 23 PA0/WKUP/USART2_CTS/ADC123_IN0/TIM2_CH1_ETR/TIM5_CH1/TIM8_ETR, 24 PA1/USART2_RTS/ADC123_IN1/TIM2_CH2/TIM5_CH2, 25 PA2/USART2_TX/ADC123_IN2/TIM2_CH3/TIM5_CH3, 26 PA3/USART2_RX/ADC123_IN3/TIM2_CH4/TIM5_CH4, 27 VSS, 28 VDD, 29 PA4/SPI1_NSS/USART2_CK/ADC12_IN4/DAC_OUT1, 30 PA5/SPI1_SCK/ADC12_IN5/DAC_OUT2, 31 PA6/SPI1_MISO/ADC12_IN6/TIM3_CH1/TIM8_BKIN, 32 PA7/SPI1_MOSI/ADC12_IN7/TIM3_CH2/TIM8_CH1N, 33 PC4/ADC12_IN14, 34 PC5/ADC12_IN15, 35 PB0/ADC_IN8/TIM3_CH3, 36 PB1/ADC_IN9/TIM3_CH4, 37 PB2/BOOT1, 38 PE7, 39 PE8, 40 PE9, 41 PE10, 42 PE11, 43 PE12, 44 PE13, 45 PE14, 46 PE15, 47 PB10/I2C2_SCL/USART3_TX, 48 PB11/I2C2_SDA/USART3_RX, 49 VSS, 50 VDD, 51 PB12/SPI2_NSS/I2C2_SMBAI/USART3_CK/TIM1_BKIN, 52 PB13/SPI2_SCK/USART3_CTS/TIM1_CH1N, 53 PB14/SPI2_MISO/USART3_RTS/TIM1_CH2N, 54 PB15/SPI2_MOSI/TIM1_CH3N, 55 PD8, 56 PD9, 57 PD10, 58 PD11, 59 PD12, 60 PD13, 61 PD14, 62 PD15, 63 PC6, 64 PC7, 65 PC8, 66 PC9, 67 PA8/USART1_CK/TIM1_CH1/MCO, 68 PA9/USART1_TX/TIM1_CH2, 69 PA10/USART1_RX/TIM1_CH3, 70 PA11/USART1_CTS/CANRX/USBDM/TIM1_CH4, 71 PA12/USART1_RTS/CANTX/USBDP/TIM1_ETR, 72 PA13/JTMS/SWDIO, 73 NC, 74 VSS, 75 VDD, 76 PA14/JTCK/SWCLK, 77 PA15/JTDI, 78 PC10, 79 PC11, 80 PC12, 81 PD0, 82 PD1, 83 PD2/TIM3_ETR, 84 PD3, 85 PD4, 86 PD5, 87 PD6, 88 PD7, 89 PB3/JTDO/TRACESWO, 90 PB4/JNTRST, 91 PB5/I2C1_SMBAI, 92 PB6/I2C1_SCL/TIM4_CH1, 93 PB7/I2C1_SDA/TIM4_CH2, 94 BOOT0, 95 PB8/TIM4_CH3, 96 PB9/TIM4_CH4, 97 PE0/TIM4_ETR, 98 PE1, 99 VSS, 100 VDD

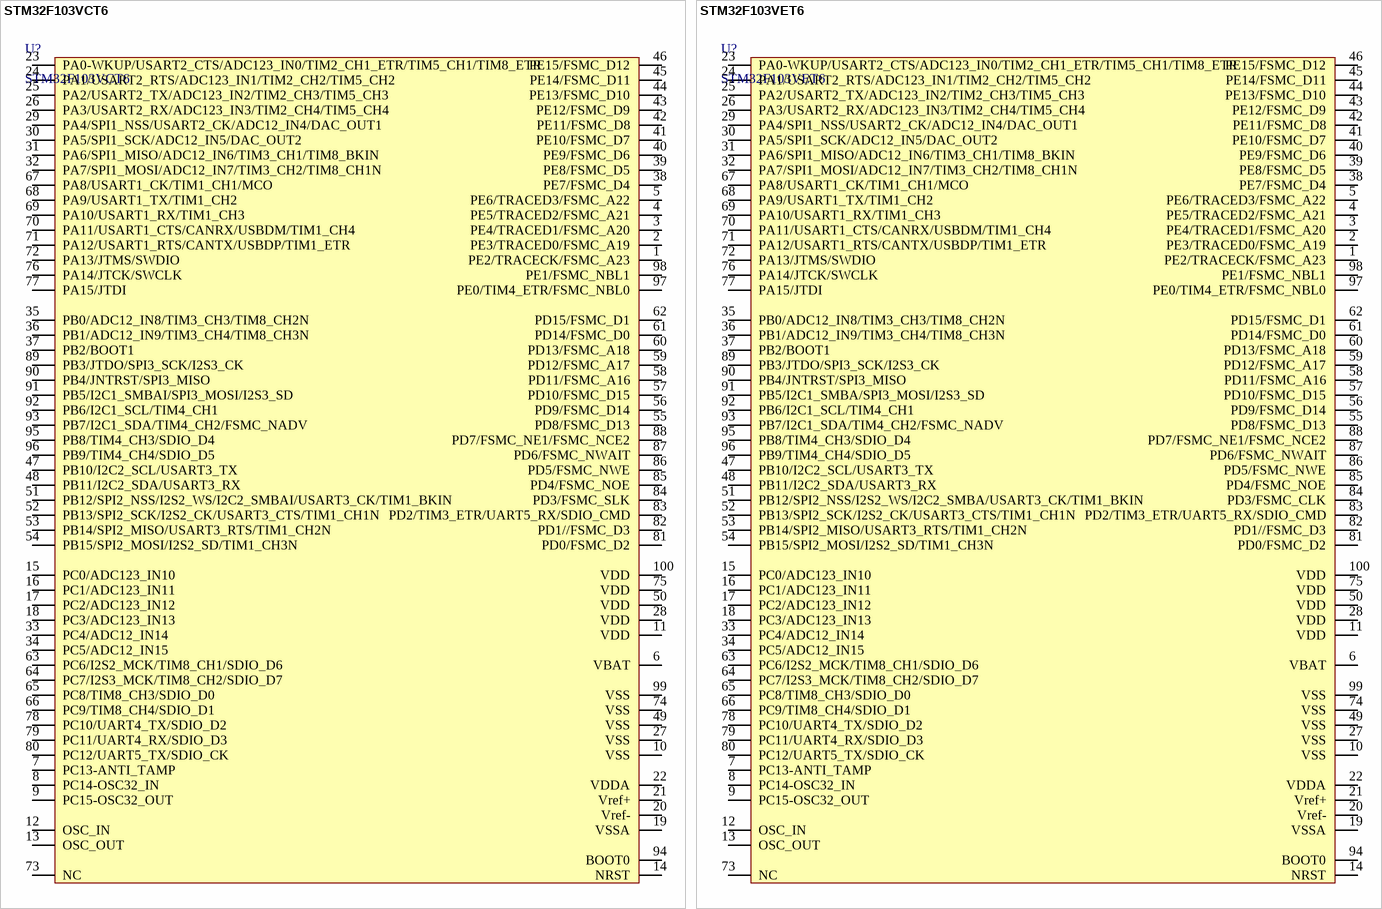
[diagram p11: symbols STM32F103VCT6 to STM32F103VET6]

## STM32F103VCT6
designator U?
footprint LQFP100 (TSQFP, 100-Leads, Body 16.0x16.0mm (max), Pitch 0.50mm, IPC Medium Density)
pins: 1 PE2/TRACECK/FSMC_A23, 2 PE3/TRACED0/FSMC_A19, 3 PE4/TRACED1/FSMC_A20, 4 PE5/TRACED2/FSMC_A21, 5 PE6/TRACED3/FSMC_A22, 6 VBAT, 7 PC13-ANTI_TAMP, 8 PC14-OSC32_IN, 9 PC15-OSC32_OUT, 10 VSS, 11 VDD, 12 OSC_IN, 13 OSC_OUT, 14 NRST, 15 PC0/ADC123_IN10, 16 PC1/ADC123_IN11, 17 PC2/ADC123_IN12, 18 PC3/ADC123_IN13, 19 VSSA, 20 Vref-, 21 Vref+, 22 VDDA, 23 PA0-WKUP/USART2_CTS/ADC123_IN0/TIM2_CH1_ETR/TIM5_CH1/TIM8_ETR, 24 PA1/USART2_RTS/ADC123_IN1/TIM2_CH2/TIM5_CH2, 25 PA2/USART2_TX/ADC123_IN2/TIM2_CH3/TIM5_CH3, 26 PA3/USART2_RX/ADC123_IN3/TIM2_CH4/TIM5_CH4, 27 VSS, 28 VDD, 29 PA4/SPI1_NSS/USART2_CK/ADC12_IN4/DAC_OUT1, 30 PA5/SPI1_SCK/ADC12_IN5/DAC_OUT2, 31 PA6/SPI1_MISO/ADC12_IN6/TIM3_CH1/TIM8_BKIN, 32 PA7/SPI1_MOSI/ADC12_IN7/TIM3_CH2/TIM8_CH1N, 33 PC4/ADC12_IN14, 34 PC5/ADC12_IN15, 35 PB0/ADC12_IN8/TIM3_CH3/TIM8_CH2N, 36 PB1/ADC12_IN9/TIM3_CH4/TIM8_CH3N, 37 PB2/BOOT1, 38 PE7/FSMC_D4, 39 PE8/FSMC_D5, 40 PE9/FSMC_D6, 41 PE10/FSMC_D7, 42 PE11/FSMC_D8, 43 PE12/FSMC_D9, 44 PE13/FSMC_D10, 45 PE14/FSMC_D11, 46 PE15/FSMC_D12, 47 PB10/I2C2_SCL/USART3_TX, 48 PB11/I2C2_SDA/USART3_RX, 49 VSS, 50 VDD, 51 PB12/SPI2_NSS/I2S2_WS/I2C2_SMBAI/USART3_CK/TIM1_BKIN, 52 PB13/SPI2_SCK/I2S2_CK/USART3_CTS/TIM1_CH1N, 53 PB14/SPI2_MISO/USART3_RTS/TIM1_CH2N, 54 PB15/SPI2_MOSI/I2S2_SD/TIM1_CH3N, 55 PD8/FSMC_D13, 56 PD9/FSMC_D14, 57 PD10/FSMC_D15, 58 PD11/FSMC_A16, 59 PD12/FSMC_A17, 60 PD13/FSMC_A18, 61 PD14/FSMC_D0, 62 PD15/FSMC_D1, 63 PC6/I2S2_MCK/TIM8_CH1/SDIO_D6, 64 PC7/I2S3_MCK/TIM8_CH2/SDIO_D7, 65 PC8/TIM8_CH3/SDIO_D0, 66 PC9/TIM8_CH4/SDIO_D1, 67 PA8/USART1_CK/TIM1_CH1/MCO, 68 PA9/USART1_TX/TIM1_CH2, 69 PA10/USART1_RX/TIM1_CH3, 70 PA11/USART1_CTS/CANRX/USBDM/TIM1_CH4, 71 PA12/USART1_RTS/CANTX/USBDP/TIM1_ETR, 72 PA13/JTMS/SWDIO, 73 NC, 74 VSS, 75 VDD, 76 PA14/JTCK/SWCLK, 77 PA15/JTDI, 78 PC10/UART4_TX/SDIO_D2, 79 PC11/UART4_RX/SDIO_D3, 80 PC12/UART5_TX/SDIO_CK, 81 PD0/FSMC_D2, 82 PD1//FSMC_D3, 83 PD2/TIM3_ETR/UART5_RX/SDIO_CMD, 84 PD3/FSMC_SLK, 85 PD4/FSMC_NOE, 86 PD5/FSMC_NWE, 87 PD6/FSMC_NWAIT, 88 PD7/FSMC_NE1/FSMC_NCE2, 89 PB3/JTDO/SPI3_SCK/I2S3_CK, 90 PB4/JNTRST/SPI3_MISO, 91 PB5/I2C1_SMBAI/SPI3_MOSI/I2S3_SD, 92 PB6/I2C1_SCL/TIM4_CH1, 93 PB7/I2C1_SDA/TIM4_CH2/FSMC_NADV, 94 BOOT0, 95 PB8/TIM4_CH3/SDIO_D4, 96 PB9/TIM4_CH4/SDIO_D5, 97 PE0/TIM4_ETR/FSMC_NBL0, 98 PE1/FSMC_NBL1, 99 VSS, 100 VDD

## STM32F103VET6
designator U?
footprint LQFP100 (TSQFP, 100-Leads, Body 16.0x16.0mm (max), Pitch 0.50mm, IPC Medium Density)
pins: 1 PE2/TRACECK/FSMC_A23, 2 PE3/TRACED0/FSMC_A19, 3 PE4/TRACED1/FSMC_A20, 4 PE5/TRACED2/FSMC_A21, 5 PE6/TRACED3/FSMC_A22, 6 VBAT, 7 PC13-ANTI_TAMP, 8 PC14-OSC32_IN, 9 PC15-OSC32_OUT, 10 VSS, 11 VDD, 12 OSC_IN, 13 OSC_OUT, 14 NRST, 15 PC0/ADC123_IN10, 16 PC1/ADC123_IN11, 17 PC2/ADC123_IN12, 18 PC3/ADC123_IN13, 19 VSSA, 20 Vref-, 21 Vref+, 22 VDDA, 23 PA0-WKUP/USART2_CTS/ADC123_IN0/TIM2_CH1_ETR/TIM5_CH1/TIM8_ETR, 24 PA1/USART2_RTS/ADC123_IN1/TIM2_CH2/TIM5_CH2, 25 PA2/USART2_TX/ADC123_IN2/TIM2_CH3/TIM5_CH3, 26 PA3/USART2_RX/ADC123_IN3/TIM2_CH4/TIM5_CH4, 27 VSS, 28 VDD, 29 PA4/SPI1_NSS/USART2_CK/ADC12_IN4/DAC_OUT1, 30 PA5/SPI1_SCK/ADC12_IN5/DAC_OUT2, 31 PA6/SPI1_MISO/ADC12_IN6/TIM3_CH1/TIM8_BKIN, 32 PA7/SPI1_MOSI/ADC12_IN7/TIM3_CH2/TIM8_CH1N, 33 PC4/ADC12_IN14, 34 PC5/ADC12_IN15, 35 PB0/ADC12_IN8/TIM3_CH3/TIM8_CH2N, 36 PB1/ADC12_IN9/TIM3_CH4/TIM8_CH3N, 37 PB2/BOOT1, 38 PE7/FSMC_D4, 39 PE8/FSMC_D5, 40 PE9/FSMC_D6, 41 PE10/FSMC_D7, 42 PE11/FSMC_D8, 43 PE12/FSMC_D9, 44 PE13/FSMC_D10, 45 PE14/FSMC_D11, 46 PE15/FSMC_D12, 47 PB10/I2C2_SCL/USART3_TX, 48 PB11/I2C2_SDA/USART3_RX, 49 VSS, 50 VDD, 51 PB12/SPI2_NSS/I2S2_WS/I2C2_SMBA/USART3_CK/TIM1_BKIN, 52 PB13/SPI2_SCK/I2S2_CK/USART3_CTS/TIM1_CH1N, 53 PB14/SPI2_MISO/USART3_RTS/TIM1_CH2N, 54 PB15/SPI2_MOSI/I2S2_SD/TIM1_CH3N, 55 PD8/FSMC_D13, 56 PD9/FSMC_D14, 57 PD10/FSMC_D15, 58 PD11/FSMC_A16, 59 PD12/FSMC_A17, 60 PD13/FSMC_A18, 61 PD14/FSMC_D0, 62 PD15/FSMC_D1, 63 PC6/I2S2_MCK/TIM8_CH1/SDIO_D6, 64 PC7/I2S3_MCK/TIM8_CH2/SDIO_D7, 65 PC8/TIM8_CH3/SDIO_D0, 66 PC9/TIM8_CH4/SDIO_D1, 67 PA8/USART1_CK/TIM1_CH1/MCO, 68 PA9/USART1_TX/TIM1_CH2, 69 PA10/USART1_RX/TIM1_CH3, 70 PA11/USART1_CTS/CANRX/USBDM/TIM1_CH4, 71 PA12/USART1_RTS/CANTX/USBDP/TIM1_ETR, 72 PA13/JTMS/SWDIO, 73 NC, 74 VSS, 75 VDD, 76 PA14/JTCK/SWCLK, 77 PA15/JTDI, 78 PC10/UART4_TX/SDIO_D2, 79 PC11/UART4_RX/SDIO_D3, 80 PC12/UART5_TX/SDIO_CK, 81 PD0/FSMC_D2, 82 PD1//FSMC_D3, 83 PD2/TIM3_ETR/UART5_RX/SDIO_CMD, 84 PD3/FSMC_CLK, 85 PD4/FSMC_NOE, 86 PD5/FSMC_NWE, 87 PD6/FSMC_NWAIT, 88 PD7/FSMC_NE1/FSMC_NCE2, 89 PB3/JTDO/SPI3_SCK/I2S3_CK, 90 PB4/JNTRST/SPI3_MISO, 91 PB5/I2C1_SMBA/SPI3_MOSI/I2S3_SD, 92 PB6/I2C1_SCL/TIM4_CH1, 93 PB7/I2C1_SDA/TIM4_CH2/FSMC_NADV, 94 BOOT0, 95 PB8/TIM4_CH3/SDIO_D4, 96 PB9/TIM4_CH4/SDIO_D5, 97 PE0/TIM4_ETR/FSMC_NBL0, 98 PE1/FSMC_NBL1, 99 VSS, 100 VDD

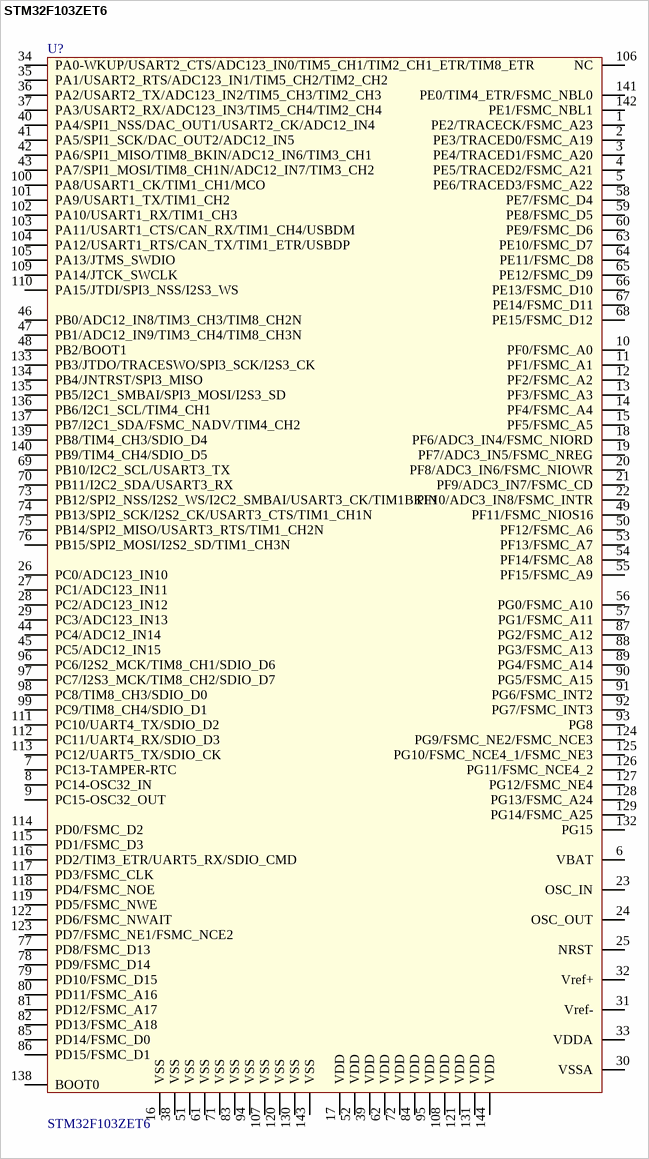
[diagram p12: symbol STM32F103ZET6]

## STM32F103ZET6
designator U?
footprint LQFP144
pins: 1 PE2/TRACECK/FSMC_A23, 2 PE3/TRACED0/FSMC_A19, 3 PE4/TRACED1/FSMC_A20, 4 PE5/TRACED2/FSMC_A21, 5 PE6/TRACED3/FSMC_A22, 6 VBAT, 7 PC13-TAMPER-RTC, 8 PC14-OSC32_IN, 9 PC15-OSC32_OUT, 10 PF0/FSMC_A0, 11 PF1/FSMC_A1, 12 PF2/FSMC_A2, 13 PF3/FSMC_A3, 14 PF4/FSMC_A4, 15 PF5/FSMC_A5, 16 VSS, 17 VDD, 18 PF6/ADC3_IN4/FSMC_NIORD, 19 PF7/ADC3_IN5/FSMC_NREG, 20 PF8/ADC3_IN6/FSMC_NIOWR, 21 PF9/ADC3_IN7/FSMC_CD, 22 PF10/ADC3_IN8/FSMC_INTR, 23 OSC_IN, 24 OSC_OUT, 25 NRST, 26 PC0/ADC123_IN10, 27 PC1/ADC123_IN11, 28 PC2/ADC123_IN12, 29 PC3/ADC123_IN13, 30 VSSA, 31 Vref-, 32 Vref+, 33 VDDA, 34 PA0-WKUP/USART2_CTS/ADC123_IN0/TIM5_CH1/TIM2_CH1_ETR/TIM8_ETR, 35 PA1/USART2_RTS/ADC123_IN1/TIM5_CH2/TIM2_CH2, 36 PA2/USART2_TX/ADC123_IN2/TIM5_CH3/TIM2_CH3, 37 PA3/USART2_RX/ADC123_IN3/TIM5_CH4/TIM2_CH4, 38 VSS, 39 VDD, 40 PA4/SPI1_NSS/DAC_OUT1/USART2_CK/ADC12_IN4, 41 PA5/SPI1_SCK/DAC_OUT2/ADC12_IN5, 42 PA6/SPI1_MISO/TIM8_BKIN/ADC12_IN6/TIM3_CH1, 43 PA7/SPI1_MOSI/TIM8_CH1N/ADC12_IN7/TIM3_CH2, 44 PC4/ADC12_IN14, 45 PC5/ADC12_IN15, 46 PB0/ADC12_IN8/TIM3_CH3/TIM8_CH2N, 47 PB1/ADC12_IN9/TIM3_CH4/TIM8_CH3N, 48 PB2/BOOT1, 49 PF11/FSMC_NIOS16, 50 PF12/FSMC_A6, 51 VSS, 52 VDD, 53 PF13/FSMC_A7, 54 PF14/FSMC_A8, 55 PF15/FSMC_A9, 56 PG0/FSMC_A10, 57 PG1/FSMC_A11, 58 PE7/FSMC_D4, 59 PE8/FSMC_D5, 60 PE9/FSMC_D6, 61 VSS, 62 VDD, 63 PE10/FSMC_D7, 64 PE11/FSMC_D8, 65 PE12/FSMC_D9, 66 PE13/FSMC_D10, 67 PE14/FSMC_D11, 68 PE15/FSMC_D12, 69 PB10/I2C2_SCL/USART3_TX, 70 PB11/I2C2_SDA/USART3_RX, 71 VSS, 72 VDD, 73 PB12/SPI2_NSS/I2S2_WS/I2C2_SMBAI/USART3_CK/TIM1BKIN, 74 PB13/SPI2_SCK/I2S2_CK/USART3_CTS/TIM1_CH1N, 75 PB14/SPI2_MISO/USART3_RTS/TIM1_CH2N, 76 PB15/SPI2_MOSI/I2S2_SD/TIM1_CH3N, 77 PD8/FSMC_D13, 78 PD9/FSMC_D14, 79 PD10/FSMC_D15, 80 PD11/FSMC_A16, 81 PD12/FSMC_A17, 82 PD13/FSMC_A18, 83 VSS, 84 VDD, 85 PD14/FSMC_D0, 86 PD15/FSMC_D1, 87 PG2/FSMC_A12, 88 PG3/FSMC_A13, 89 PG4/FSMC_A14, 90 PG5/FSMC_A15, 91 PG6/FSMC_INT2, 92 PG7/FSMC_INT3, 93 PG8, 94 VSS, 95 VDD, 96 PC6/I2S2_MCK/TIM8_CH1/SDIO_D6, 97 PC7/I2S3_MCK/TIM8_CH2/SDIO_D7, 98 PC8/TIM8_CH3/SDIO_D0, 99 PC9/TIM8_CH4/SDIO_D1, 100 PA8/USART1_CK/TIM1_CH1/MCO, 101 PA9/USART1_TX/TIM1_CH2, 102 PA10/USART1_RX/TIM1_CH3, 103 PA11/USART1_CTS/CAN_RX/TIM1_CH4/USBDM, 104 PA12/USART1_RTS/CAN_TX/TIM1_ETR/USBDP, 105 PA13/JTMS_SWDIO, 106 NC, 107 VSS, 108 VDD, 109 PA14/JTCK_SWCLK, 110 PA15/JTDI/SPI3_NSS/I2S3_WS, 111 PC10/UART4_TX/SDIO_D2, 112 PC11/UART4_RX/SDIO_D3, 113 PC12/UART5_TX/SDIO_CK, 114 PD0/FSMC_D2, 115 PD1/FSMC_D3, 116 PD2/TIM3_ETR/UART5_RX/SDIO_CMD, 117 PD3/FSMC_CLK, 118 PD4/FSMC_NOE, 119 PD5/FSMC_NWE, 120 VSS, 121 VDD, 122 PD6/FSMC_NWAIT, 123 PD7/FSMC_NE1/FSMC_NCE2, 124 PG9/FSMC_NE2/FSMC_NCE3, 125 PG10/FSMC_NCE4_1/FSMC_NE3, 126 PG11/FSMC_NCE4_2, 127 PG12/FSMC_NE4, 128 PG13/FSMC_A24, 129 PG14/FSMC_A25, 130 VSS, 131 VDD, 132 PG15, 133 PB3/JTDO/TRACESWO/SPI3_SCK/I2S3_CK, 134 PB4/JNTRST/SPI3_MISO, 135 PB5/I2C1_SMBAI/SPI3_MOSI/I2S3_SD, 136 PB6/I2C1_SCL/TIM4_CH1, 137 PB7/I2C1_SDA/FSMC_NADV/TIM4_CH2, 138 BOOT0, 139 PB8/TIM4_CH3/SDIO_D4, 140 PB9/TIM4_CH4/SDIO_D5, 141 PE0/TIM4_ETR/FSMC_NBL0, 142 PE1/FSMC_NBL1, 143 VSS, 144 VDD

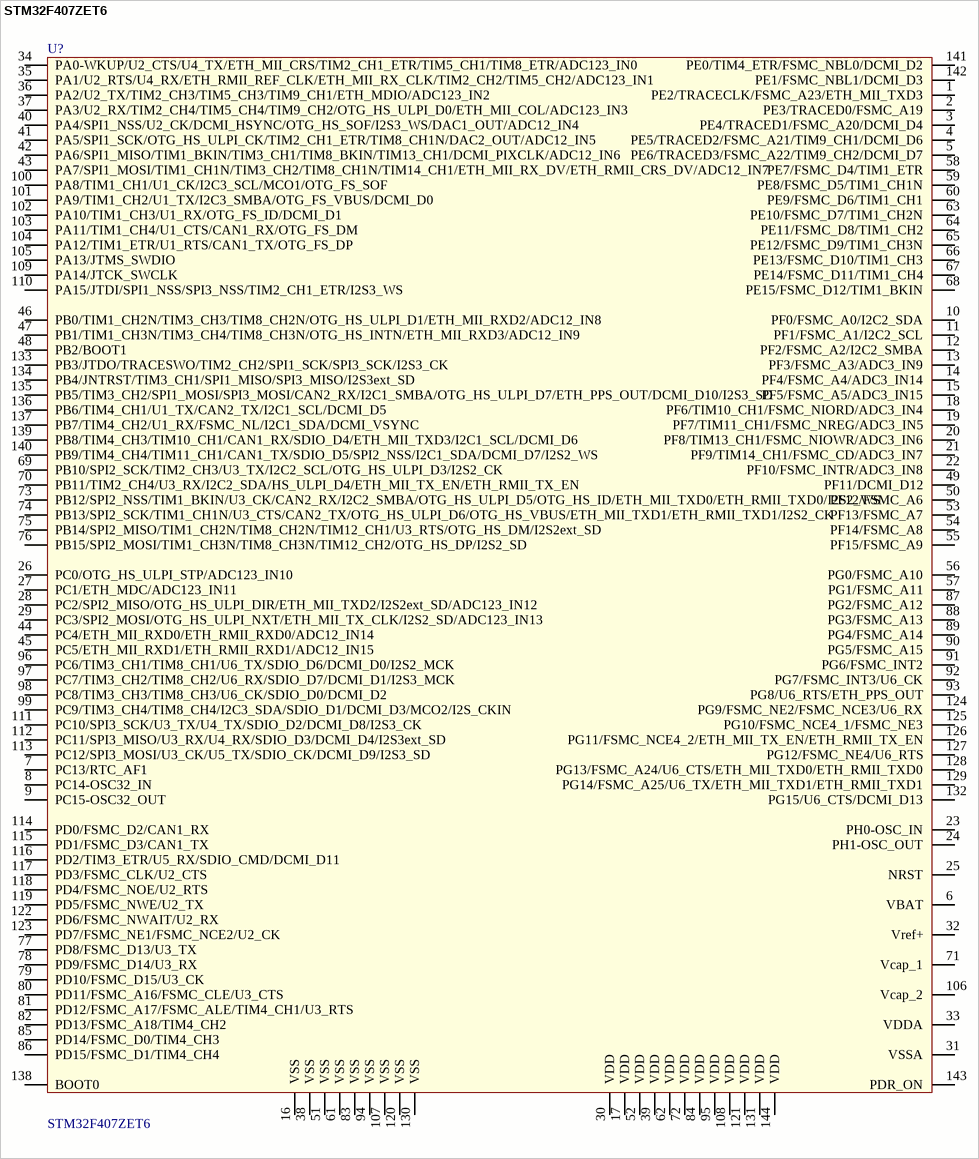
[diagram p13: symbol STM32F407ZET6]

## STM32F407ZET6
designator U?
footprint LQFP144
pins: 1 PE2/TRACECLK/FSMC_A23/ETH_MII_TXD3, 2 PE3/TRACED0/FSMC_A19, 3 PE4/TRACED1/FSMC_A20/DCMI_D4, 4 PE5/TRACED2/FSMC_A21/TIM9_CH1/DCMI_D6, 5 PE6/TRACED3/FSMC_A22/TIM9_CH2/DCMI_D7, 6 VBAT, 7 PC13/RTC_AF1, 8 PC14-OSC32_IN, 9 PC15-OSC32_OUT, 10 PF0/FSMC_A0/I2C2_SDA, 11 PF1/FSMC_A1/I2C2_SCL, 12 PF2/FSMC_A2/I2C2_SMBA, 13 PF3/FSMC_A3/ADC3_IN9, 14 PF4/FSMC_A4/ADC3_IN14, 15 PF5/FSMC_A5/ADC3_IN15, 16 VSS, 17 VDD, 18 PF6/TIM10_CH1/FSMC_NIORD/ADC3_IN4, 19 PF7/TIM11_CH1/FSMC_NREG/ADC3_IN5, 20 PF8/TIM13_CH1/FSMC_NIOWR/ADC3_IN6, 21 PF9/TIM14_CH1/FSMC_CD/ADC3_IN7, 22 PF10/FSMC_INTR/ADC3_IN8, 23 PH0-OSC_IN, 24 PH1-OSC_OUT, 25 NRST, 26 PC0/OTG_HS_ULPI_STP/ADC123_IN10, 27 PC1/ETH_MDC/ADC123_IN11, 28 PC2/SPI2_MISO/OTG_HS_ULPI_DIR/ETH_MII_TXD2/I2S2ext_SD/ADC123_IN12, 29 PC3/SPI2_MOSI/OTG_HS_ULPI_NXT/ETH_MII_TX_CLK/I2S2_SD/ADC123_IN13, 30 VDD, 31 VSSA, 32 Vref+, 33 VDDA, 34 PA0-WKUP/U2_CTS/U4_TX/ETH_MII_CRS/TIM2_CH1_ETR/TIM5_CH1/TIM8_ETR/ADC123_IN0, 35 PA1/U2_RTS/U4_RX/ETH_RMII_REF_CLK/ETH_MII_RX_CLK/TIM2_CH2/TIM5_CH2/ADC123_IN1, 36 PA2/U2_TX/TIM2_CH3/TIM5_CH3/TIM9_CH1/ETH_MDIO/ADC123_IN2, 37 PA3/U2_RX/TIM2_CH4/TIM5_CH4/TIM9_CH2/OTG_HS_ULPI_D0/ETH_MII_COL/ADC123_IN3, 38 VSS, 39 VDD, 40 PA4/SPI1_NSS/U2_CK/DCMI_HSYNC/OTG_HS_SOF/I2S3_WS/DAC1_OUT/ADC12_IN4, 41 PA5/SPI1_SCK/OTG_HS_ULPI_CK/TIM2_CH1_ETR/TIM8_CH1N/DAC2_OUT/ADC12_IN5, 42 PA6/SPI1_MISO/TIM1_BKIN/TIM3_CH1/TIM8_BKIN/TIM13_CH1/DCMI_PIXCLK/ADC12_IN6, 43 PA7/SPI1_MOSI/TIM1_CH1N/TIM3_CH2/TIM8_CH1N/TIM14_CH1/ETH_MII_RX_DV/ETH_RMII_CRS_DV/ADC12_IN7, 44 PC4/ETH_MII_RXD0/ETH_RMII_RXD0/ADC12_IN14, 45 PC5/ETH_MII_RXD1/ETH_RMII_RXD1/ADC12_IN15, 46 PB0/TIM1_CH2N/TIM3_CH3/TIM8_CH2N/OTG_HS_ULPI_D1/ETH_MII_RXD2/ADC12_IN8, 47 PB1/TIM1_CH3N/TIM3_CH4/TIM8_CH3N/OTG_HS_INTN/ETH_MII_RXD3/ADC12_IN9, 48 PB2/BOOT1, 49 PF11/DCMI_D12, 50 PF12/FSMC_A6, 51 VSS, 52 VDD, 53 PF13/FSMC_A7, 54 PF14/FSMC_A8, 55 PF15/FSMC_A9, 56 PG0/FSMC_A10, 57 PG1/FSMC_A11, 58 PE7/FSMC_D4/TIM1_ETR, 59 PE8/FSMC_D5/TIM1_CH1N, 60 PE9/FSMC_D6/TIM1_CH1, 61 VSS, 62 VDD, 63 PE10/FSMC_D7/TIM1_CH2N, 64 PE11/FSMC_D8/TIM1_CH2, 65 PE12/FSMC_D9/TIM1_CH3N, 66 PE13/FSMC_D10/TIM1_CH3, 67 PE14/FSMC_D11/TIM1_CH4, 68 PE15/FSMC_D12/TIM1_BKIN, 69 PB10/SPI2_SCK/TIM2_CH3/U3_TX/I2C2_SCL/OTG_HS_ULPI_D3/I2S2_CK, 70 PB11/TIM2_CH4/U3_RX/I2C2_SDA/HS_ULPI_D4/ETH_MII_TX_EN/ETH_RMII_TX_EN, 71 Vcap_1, 72 VDD, 73 PB12/SPI2_NSS/TIM1_BKIN/U3_CK/CAN2_RX/I2C2_SMBA/OTG_HS_ULPI_D5/OTG_HS_ID/ETH_MII_TXD0/ETH_RMII_TXD0/I2S2_WS, 74 PB13/SPI2_SCK/TIM1_CH1N/U3_CTS/CAN2_TX/OTG_HS_ULPI_D6/OTG_HS_VBUS/ETH_MII_TXD1/ETH_RMII_TXD1/I2S2_CK, 75 PB14/SPI2_MISO/TIM1_CH2N/TIM8_CH2N/TIM12_CH1/U3_RTS/OTG_HS_DM/I2S2ext_SD, 76 PB15/SPI2_MOSI/TIM1_CH3N/TIM8_CH3N/TIM12_CH2/OTG_HS_DP/I2S2_SD, 77 PD8/FSMC_D13/U3_TX, 78 PD9/FSMC_D14/U3_RX, 79 PD10/FSMC_D15/U3_CK, 80 PD11/FSMC_A16/FSMC_CLE/U3_CTS, 81 PD12/FSMC_A17/FSMC_ALE/TIM4_CH1/U3_RTS, 82 PD13/FSMC_A18/TIM4_CH2, 83 VSS, 84 VDD, 85 PD14/FSMC_D0/TIM4_CH3, 86 PD15/FSMC_D1/TIM4_CH4, 87 PG2/FSMC_A12, 88 PG3/FSMC_A13, 89 PG4/FSMC_A14, 90 PG5/FSMC_A15, 91 PG6/FSMC_INT2, 92 PG7/FSMC_INT3/U6_CK, 93 PG8/U6_RTS/ETH_PPS_OUT, 94 VSS, 95 VDD, 96 PC6/TIM3_CH1/TIM8_CH1/U6_TX/SDIO_D6/DCMI_D0/I2S2_MCK, 97 PC7/TIM3_CH2/TIM8_CH2/U6_RX/SDIO_D7/DCMI_D1/I2S3_MCK, 98 PC8/TIM3_CH3/TIM8_CH3/U6_CK/SDIO_D0/DCMI_D2, 99 PC9/TIM3_CH4/TIM8_CH4/I2C3_SDA/SDIO_D1/DCMI_D3/MCO2/I2S_CKIN , 100 PA8/TIM1_CH1/U1_CK/I2C3_SCL/MCO1/OTG_FS_SOF, 101 PA9/TIM1_CH2/U1_TX/I2C3_SMBA/OTG_FS_VBUS/DCMI_D0, 102 PA10/TIM1_CH3/U1_RX/OTG_FS_ID/DCMI_D1, 103 PA11/TIM1_CH4/U1_CTS/CAN1_RX/OTG_FS_DM, 104 PA12/TIM1_ETR/U1_RTS/CAN1_TX/OTG_FS_DP, 105 PA13/JTMS_SWDIO, 106 Vcap_2, 107 VSS, 108 VDD, 109 PA14/JTCK_SWCLK, 110 PA15/JTDI/SPI1_NSS/SPI3_NSS/TIM2_CH1_ETR/I2S3_WS, 111 PC10/SPI3_SCK/U3_TX/U4_TX/SDIO_D2/DCMI_D8/I2S3_CK, 112 PC11/SPI3_MISO/U3_RX/U4_RX/SDIO_D3/DCMI_D4/I2S3ext_SD  , 113 PC12/SPI3_MOSI/U3_CK/U5_TX/SDIO_CK/DCMI_D9/I2S3_SD, 114 PD0/FSMC_D2/CAN1_RX, 115 PD1/FSMC_D3/CAN1_TX, 116 PD2/TIM3_ETR/U5_RX/SDIO_CMD/DCMI_D11, 117 PD3/FSMC_CLK/U2_CTS, 118 PD4/FSMC_NOE/U2_RTS, 119 PD5/FSMC_NWE/U2_TX, 120 VSS, 121 VDD, 122 PD6/FSMC_NWAIT/U2_RX, 123 PD7/FSMC_NE1/FSMC_NCE2/U2_CK, 124 PG9/FSMC_NE2/FSMC_NCE3/U6_RX, 125 PG10/FSMC_NCE4_1/FSMC_NE3, 126 PG11/FSMC_NCE4_2/ETH_MII_TX_EN/ETH_RMII_TX_EN, 127 PG12/FSMC_NE4/U6_RTS, 128 PG13/FSMC_A24/U6_CTS/ETH_MII_TXD0/ETH_RMII_TXD0, 129 PG14/FSMC_A25/U6_TX/ETH_MII_TXD1/ETH_RMII_TXD1, 130 VSS, 131 VDD, 132 PG15/U6_CTS/DCMI_D13, 133 PB3/JTDO/TRACESWO/TIM2_CH2/SPI1_SCK/SPI3_SCK/I2S3_CK, 134 PB4/JNTRST/TIM3_CH1/SPI1_MISO/SPI3_MISO/I2S3ext_SD, 135 PB5/TIM3_CH2/SPI1_MOSI/SPI3_MOSI/CAN2_RX/I2C1_SMBA/OTG_HS_ULPI_D7/ETH_PPS_OUT/DCMI_D10/I2S3_SD, 136 PB6/TIM4_CH1/U1_TX/CAN2_TX/I2C1_SCL/DCMI_D5, 137 PB7/TIM4_CH2/U1_RX/FSMC_NL/I2C1_SDA/DCMI_VSYNC, 138 BOOT0, 139 PB8/TIM4_CH3/TIM10_CH1/CAN1_RX/SDIO_D4/ETH_MII_TXD3/I2C1_SCL/DCMI_D6, 140 PB9/TIM4_CH4/TIM11_CH1/CAN1_TX/SDIO_D5/SPI2_NSS/I2C1_SDA/DCMI_D7/I2S2_WS, 141 PE0/TIM4_ETR/FSMC_NBL0/DCMI_D2, 142 PE1/FSMC_NBL1/DCMI_D3, 143 PDR_ON, 144 VDD

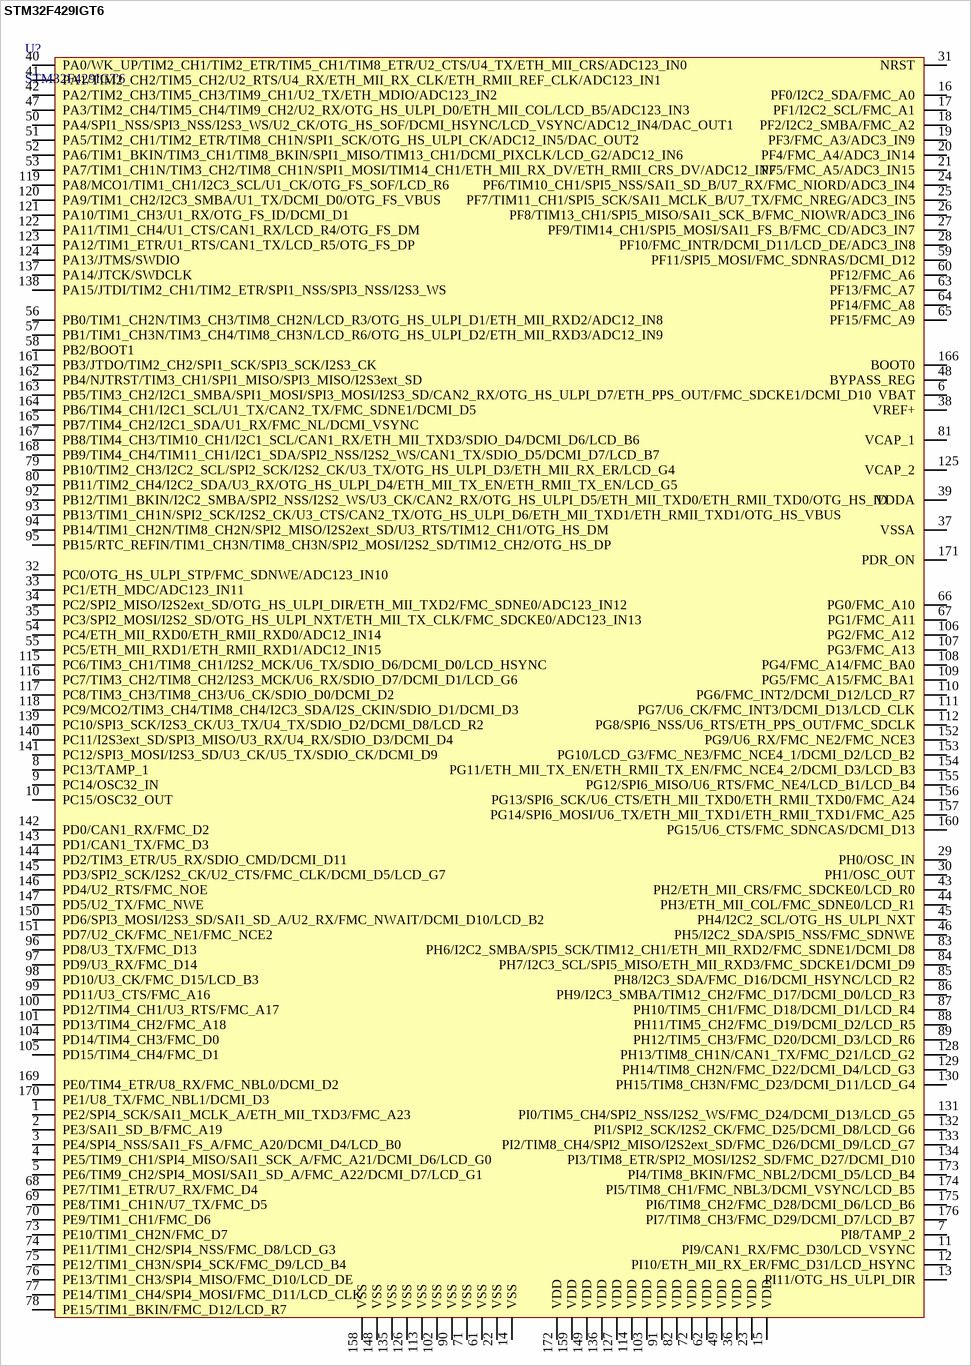
[diagram p14: symbol STM32F429IGT6]

## STM32F429IGT6
designator U?
footprint LQFP176 (TSQFP, 176-Leads, Body 26.1x26.1mm (max), Pitch 0.50mm, IPC Medium Density)
pins: 1 PE2/SPI4_SCK/SAI1_MCLK_A/ETH_MII_TXD3/FMC_A23, 2 PE3/SAI1_SD_B/FMC_A19, 3 PE4/SPI4_NSS/SAI1_FS_A/FMC_A20/DCMI_D4/LCD_B0, 4 PE5/TIM9_CH1/SPI4_MISO/SAI1_SCK_A/FMC_A21/DCMI_D6/LCD_G0, 5 PE6/TIM9_CH2/SPI4_MOSI/SAI1_SD_A/FMC_A22/DCMI_D7/LCD_G1, 6 VBAT, 7 PI8/TAMP_2, 8 PC13/TAMP_1, 9 PC14/OSC32_IN, 10 PC15/OSC32_OUT, 11 PI9/CAN1_RX/FMC_D30/LCD_VSYNC, 12 PI10/ETH_MII_RX_ER/FMC_D31/LCD_HSYNC, 13 PI11/OTG_HS_ULPI_DIR, 14 VSS, 15 VDD, 16 PF0/I2C2_SDA/FMC_A0, 17 PF1/I2C2_SCL/FMC_A1, 18 PF2/I2C2_SMBA/FMC_A2, 19 PF3/FMC_A3/ADC3_IN9, 20 PF4/FMC_A4/ADC3_IN14, 21 PF5/FMC_A5/ADC3_IN15, 22 VSS, 23 VDD, 24 PF6/TIM10_CH1/SPI5_NSS/SAI1_SD_B/U7_RX/FMC_NIORD/ADC3_IN4, 25 PF7/TIM11_CH1/SPI5_SCK/SAI1_MCLK_B/U7_TX/FMC_NREG/ADC3_IN5, 26 PF8/TIM13_CH1/SPI5_MISO/SAI1_SCK_B/FMC_NIOWR/ADC3_IN6, 27 PF9/TIM14_CH1/SPI5_MOSI/SAI1_FS_B/FMC_CD/ADC3_IN7, 28 PF10/FMC_INTR/DCMI_D11/LCD_DE/ADC3_IN8, 29 PH0/OSC_IN, 30 PH1/OSC_OUT, 31 NRST, 32 PC0/OTG_HS_ULPI_STP/FMC_SDNWE/ADC123_IN10, 33 PC1/ETH_MDC/ADC123_IN11, 34 PC2/SPI2_MISO/I2S2ext_SD/OTG_HS_ULPI_DIR/ETH_MII_TXD2/FMC_SDNE0/ADC123_IN12, 35 PC3/SPI2_MOSI/I2S2_SD/OTG_HS_ULPI_NXT/ETH_MII_TX_CLK/FMC_SDCKE0/ADC123_IN13, 36 VDD, 37 VSSA, 38 VREF+, 39 VDDA, 40 PA0/WK_UP/TIM2_CH1/TIM2_ETR/TIM5_CH1/TIM8_ETR/U2_CTS/U4_TX/ETH_MII_CRS/ADC123_IN0, 41 PA1/TIM2_CH2/TIM5_CH2/U2_RTS/U4_RX/ETH_MII_RX_CLK/ETH_RMII_REF_CLK/ADC123_IN1, 42 PA2/TIM2_CH3/TIM5_CH3/TIM9_CH1/U2_TX/ETH_MDIO/ADC123_IN2, 43 PH2/ETH_MII_CRS/FMC_SDCKE0/LCD_R0, 44 PH3/ETH_MII_COL/FMC_SDNE0/LCD_R1, 45 PH4/I2C2_SCL/OTG_HS_ULPI_NXT, 46 PH5/I2C2_SDA/SPI5_NSS/FMC_SDNWE, 47 PA3/TIM2_CH4/TIM5_CH4/TIM9_CH2/U2_RX/OTG_HS_ULPI_D0/ETH_MII_COL/LCD_B5/ADC123_IN3, 48 BYPASS_REG, 49 VDD, 50 PA4/SPI1_NSS/SPI3_NSS/I2S3_WS/U2_CK/OTG_HS_SOF/DCMI_HSYNC/LCD_VSYNC/ADC12_IN4/DAC_OUT1, 51 PA5/TIM2_CH1/TIM2_ETR/TIM8_CH1N/SPI1_SCK/OTG_HS_ULPI_CK/ADC12_IN5/DAC_OUT2, 52 PA6/TIM1_BKIN/TIM3_CH1/TIM8_BKIN/SPI1_MISO/TIM13_CH1/DCMI_PIXCLK/LCD_G2/ADC12_IN6, 53 PA7/TIM1_CH1N/TIM3_CH2/TIM8_CH1N/SPI1_MOSI/TIM14_CH1/ETH_MII_RX_DV/ETH_RMII_CRS_DV/ADC12_IN7, 54 PC4/ETH_MII_RXD0/ETH_RMII_RXD0/ADC12_IN14, 55 PC5/ETH_MII_RXD1/ETH_RMII_RXD1/ADC12_IN15, 56 PB0/TIM1_CH2N/TIM3_CH3/TIM8_CH2N/LCD_R3/OTG_HS_ULPI_D1/ETH_MII_RXD2/ADC12_IN8, 57 PB1/TIM1_CH3N/TIM3_CH4/TIM8_CH3N/LCD_R6/OTG_HS_ULPI_D2/ETH_MII_RXD3/ADC12_IN9, 58 PB2/BOOT1, 59 PF11/SPI5_MOSI/FMC_SDNRAS/DCMI_D12, 60 PF12/FMC_A6, 61 VSS, 62 VDD, 63 PF13/FMC_A7, 64 PF14/FMC_A8, 65 PF15/FMC_A9, 66 PG0/FMC_A10, 67 PG1/FMC_A11, 68 PE7/TIM1_ETR/U7_RX/FMC_D4, 69 PE8/TIM1_CH1N/U7_TX/FMC_D5, 70 PE9/TIM1_CH1/FMC_D6, 71 VSS, 72 VDD, 73 PE10/TIM1_CH2N/FMC_D7, 74 PE11/TIM1_CH2/SPI4_NSS/FMC_D8/LCD_G3, 75 PE12/TIM1_CH3N/SPI4_SCK/FMC_D9/LCD_B4, 76 PE13/TIM1_CH3/SPI4_MISO/FMC_D10/LCD_DE, 77 PE14/TIM1_CH4/SPI4_MOSI/FMC_D11/LCD_CLK, 78 PE15/TIM1_BKIN/FMC_D12/LCD_R7, 79 PB10/TIM2_CH3/I2C2_SCL/SPI2_SCK/I2S2_CK/U3_TX/OTG_HS_ULPI_D3/ETH_MII_RX_ER/LCD_G4, 80 PB11/TIM2_CH4/I2C2_SDA/U3_RX/OTG_HS_ULPI_D4/ETH_MII_TX_EN/ETH_RMII_TX_EN/LCD_G5, 81 VCAP_1, 82 VDD, 83 PH6/I2C2_SMBA/SPI5_SCK/TIM12_CH1/ETH_MII_RXD2/FMC_SDNE1/DCMI_D8, 84 PH7/I2C3_SCL/SPI5_MISO/ETH_MII_RXD3/FMC_SDCKE1/DCMI_D9, 85 PH8/I2C3_SDA/FMC_D16/DCMI_HSYNC/LCD_R2, 86 PH9/I2C3_SMBA/TIM12_CH2/FMC_D17/DCMI_D0/LCD_R3, 87 PH10/TIM5_CH1/FMC_D18/DCMI_D1/LCD_R4, 88 PH11/TIM5_CH2/FMC_D19/DCMI_D2/LCD_R5, 89 PH12/TIM5_CH3/FMC_D20/DCMI_D3/LCD_R6, 90 VSS, 91 VDD, 92 PB12/TIM1_BKIN/I2C2_SMBA/SPI2_NSS/I2S2_WS/U3_CK/CAN2_RX/OTG_HS_ULPI_D5/ETH_MII_TXD0/ETH_RMII_TXD0/OTG_HS_ID, 93 PB13/TIM1_CH1N/SPI2_SCK/I2S2_CK/U3_CTS/CAN2_TX/OTG_HS_ULPI_D6/ETH_MII_TXD1/ETH_RMII_TXD1/OTG_HS_VBUS, 94 PB14/TIM1_CH2N/TIM8_CH2N/SPI2_MISO/I2S2ext_SD/U3_RTS/TIM12_CH1/OTG_HS_DM, 95 PB15/RTC_REFIN/TIM1_CH3N/TIM8_CH3N/SPI2_MOSI/I2S2_SD/TIM12_CH2/OTG_HS_DP, 96 PD8/U3_TX/FMC_D13, 97 PD9/U3_RX/FMC_D14, 98 PD10/U3_CK/FMC_D15/LCD_B3, 99 PD11/U3_CTS/FMC_A16, 100 PD12/TIM4_CH1/U3_RTS/FMC_A17, 101 PD13/TIM4_CH2/FMC_A18, 102 VSS, 103 VDD, 104 PD14/TIM4_CH3/FMC_D0, 105 PD15/TIM4_CH4/FMC_D1, 106 PG2/FMC_A12, 107 PG3/FMC_A13, 108 PG4/FMC_A14/FMC_BA0, 109 PG5/FMC_A15/FMC_BA1, 110 PG6/FMC_INT2/DCMI_D12/LCD_R7, 111 PG7/U6_CK/FMC_INT3/DCMI_D13/LCD_CLK, 112 PG8/SPI6_NSS/U6_RTS/ETH_PPS_OUT/FMC_SDCLK, 113 VSS, 114 VDD, 115 PC6/TIM3_CH1/TIM8_CH1/I2S2_MCK/U6_TX/SDIO_D6/DCMI_D0/LCD_HSYNC, 116 PC7/TIM3_CH2/TIM8_CH2/I2S3_MCK/U6_RX/SDIO_D7/DCMI_D1/LCD_G6, 117 PC8/TIM3_CH3/TIM8_CH3/U6_CK/SDIO_D0/DCMI_D2, 118 PC9/MCO2/TIM3_CH4/TIM8_CH4/I2C3_SDA/I2S_CKIN/SDIO_D1/DCMI_D3, 119 PA8/MCO1/TIM1_CH1/I2C3_SCL/U1_CK/OTG_FS_SOF/LCD_R6, 120 PA9/TIM1_CH2/I2C3_SMBA/U1_TX/DCMI_D0/OTG_FS_VBUS, 121 PA10/TIM1_CH3/U1_RX/OTG_FS_ID/DCMI_D1, 122 PA11/TIM1_CH4/U1_CTS/CAN1_RX/LCD_R4/OTG_FS_DM, 123 PA12/TIM1_ETR/U1_RTS/CAN1_TX/LCD_R5/OTG_FS_DP, 124 PA13/JTMS/SWDIO, 125 VCAP_2, 126 VSS, 127 VDD, 128 PH13/TIM8_CH1N/CAN1_TX/FMC_D21/LCD_G2, 129 PH14/TIM8_CH2N/FMC_D22/DCMI_D4/LCD_G3, 130 PH15/TIM8_CH3N/FMC_D23/DCMI_D11/LCD_G4, 131 PI0/TIM5_CH4/SPI2_NSS/I2S2_WS/FMC_D24/DCMI_D13/LCD_G5, 132 PI1/SPI2_SCK/I2S2_CK/FMC_D25/DCMI_D8/LCD_G6, 133 PI2/TIM8_CH4/SPI2_MISO/I2S2ext_SD/FMC_D26/DCMI_D9/LCD_G7, 134 PI3/TIM8_ETR/SPI2_MOSI/I2S2_SD/FMC_D27/DCMI_D10, 135 VSS, 136 VDD, 137 PA14/JTCK/SWDCLK, 138 PA15/JTDI/TIM2_CH1/TIM2_ETR/SPI1_NSS/SPI3_NSS/I2S3_WS, 139 PC10/SPI3_SCK/I2S3_CK/U3_TX/U4_TX/SDIO_D2/DCMI_D8/LCD_R2, 140 PC11/I2S3ext_SD/SPI3_MISO/U3_RX/U4_RX/SDIO_D3/DCMI_D4, 141 PC12/SPI3_MOSI/I2S3_SD/U3_CK/U5_TX/SDIO_CK/DCMI_D9, 142 PD0/CAN1_RX/FMC_D2, 143 PD1/CAN1_TX/FMC_D3, 144 PD2/TIM3_ETR/U5_RX/SDIO_CMD/DCMI_D11, 145 PD3/SPI2_SCK/I2S2_CK/U2_CTS/FMC_CLK/DCMI_D5/LCD_G7, 146 PD4/U2_RTS/FMC_NOE, 147 PD5/U2_TX/FMC_NWE, 148 VSS, 149 VDD, 150 PD6/SPI3_MOSI/I2S3_SD/SAI1_SD_A/U2_RX/FMC_NWAIT/DCMI_D10/LCD_B2, 151 PD7/U2_CK/FMC_NE1/FMC_NCE2, 152 PG9/U6_RX/FMC_NE2/FMC_NCE3, 153 PG10/LCD_G3/FMC_NE3/FMC_NCE4_1/DCMI_D2/LCD_B2, 154 PG11/ETH_MII_TX_EN/ETH_RMII_TX_EN/FMC_NCE4_2/DCMI_D3/LCD_B3, 155 PG12/SPI6_MISO/U6_RTS/FMC_NE4/LCD_B1/LCD_B4, 156 PG13/SPI6_SCK/U6_CTS/ETH_MII_TXD0/ETH_RMII_TXD0/FMC_A24, 157 PG14/SPI6_MOSI/U6_TX/ETH_MII_TXD1/ETH_RMII_TXD1/FMC_A25, 158 VSS, 159 VDD, 160 PG15/U6_CTS/FMC_SDNCAS/DCMI_D13, 161 PB3/JTDO/TIM2_CH2/SPI1_SCK/SPI3_SCK/I2S3_CK, 162 PB4/NJTRST/TIM3_CH1/SPI1_MISO/SPI3_MISO/I2S3ext_SD, 163 PB5/TIM3_CH2/I2C1_SMBA/SPI1_MOSI/SPI3_MOSI/I2S3_SD/CAN2_RX/OTG_HS_ULPI_D7/ETH_PPS_OUT/FMC_SDCKE1/DCMI_D10, 164 PB6/TIM4_CH1/I2C1_SCL/U1_TX/CAN2_TX/FMC_SDNE1/DCMI_D5, 165 PB7/TIM4_CH2/I2C1_SDA/U1_RX/FMC_NL/DCMI_VSYNC, 166 BOOT0, 167 PB8/TIM4_CH3/TIM10_CH1/I2C1_SCL/CAN1_RX/ETH_MII_TXD3/SDIO_D4/DCMI_D6/LCD_B6, 168 PB9/TIM4_CH4/TIM11_CH1/I2C1_SDA/SPI2_NSS/I2S2_WS/CAN1_TX/SDIO_D5/DCMI_D7/LCD_B7, 169 PE0/TIM4_ETR/U8_RX/FMC_NBL0/DCMI_D2, 170 PE1/U8_TX/FMC_NBL1/DCMI_D3, 171 PDR_ON, 172 VDD, 173 PI4/TIM8_BKIN/FMC_NBL2/DCMI_D5/LCD_B4, 174 PI5/TIM8_CH1/FMC_NBL3/DCMI_VSYNC/LCD_B5, 175 PI6/TIM8_CH2/FMC_D28/DCMI_D6/LCD_B6, 176 PI7/TIM8_CH3/FMC_D29/DCMI_D7/LCD_B7

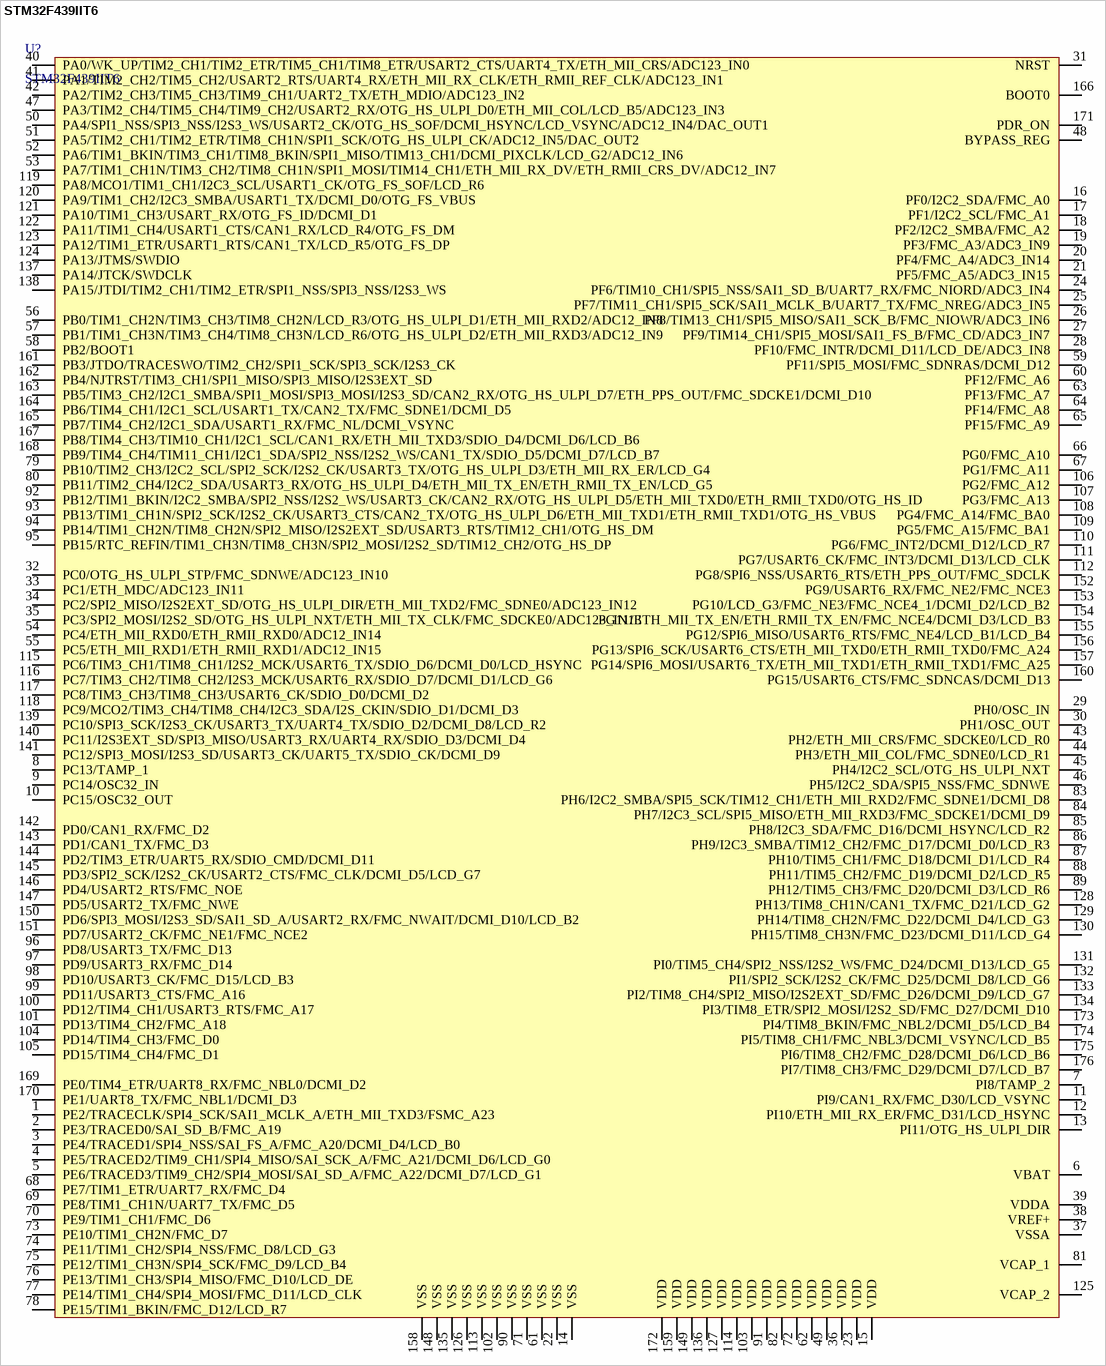
[diagram p15: symbol STM32F439IIT6]